# Altium schematic symbol library SGK_DVR_01_Library.SchLib: 230 symbols (part 3 of 3)
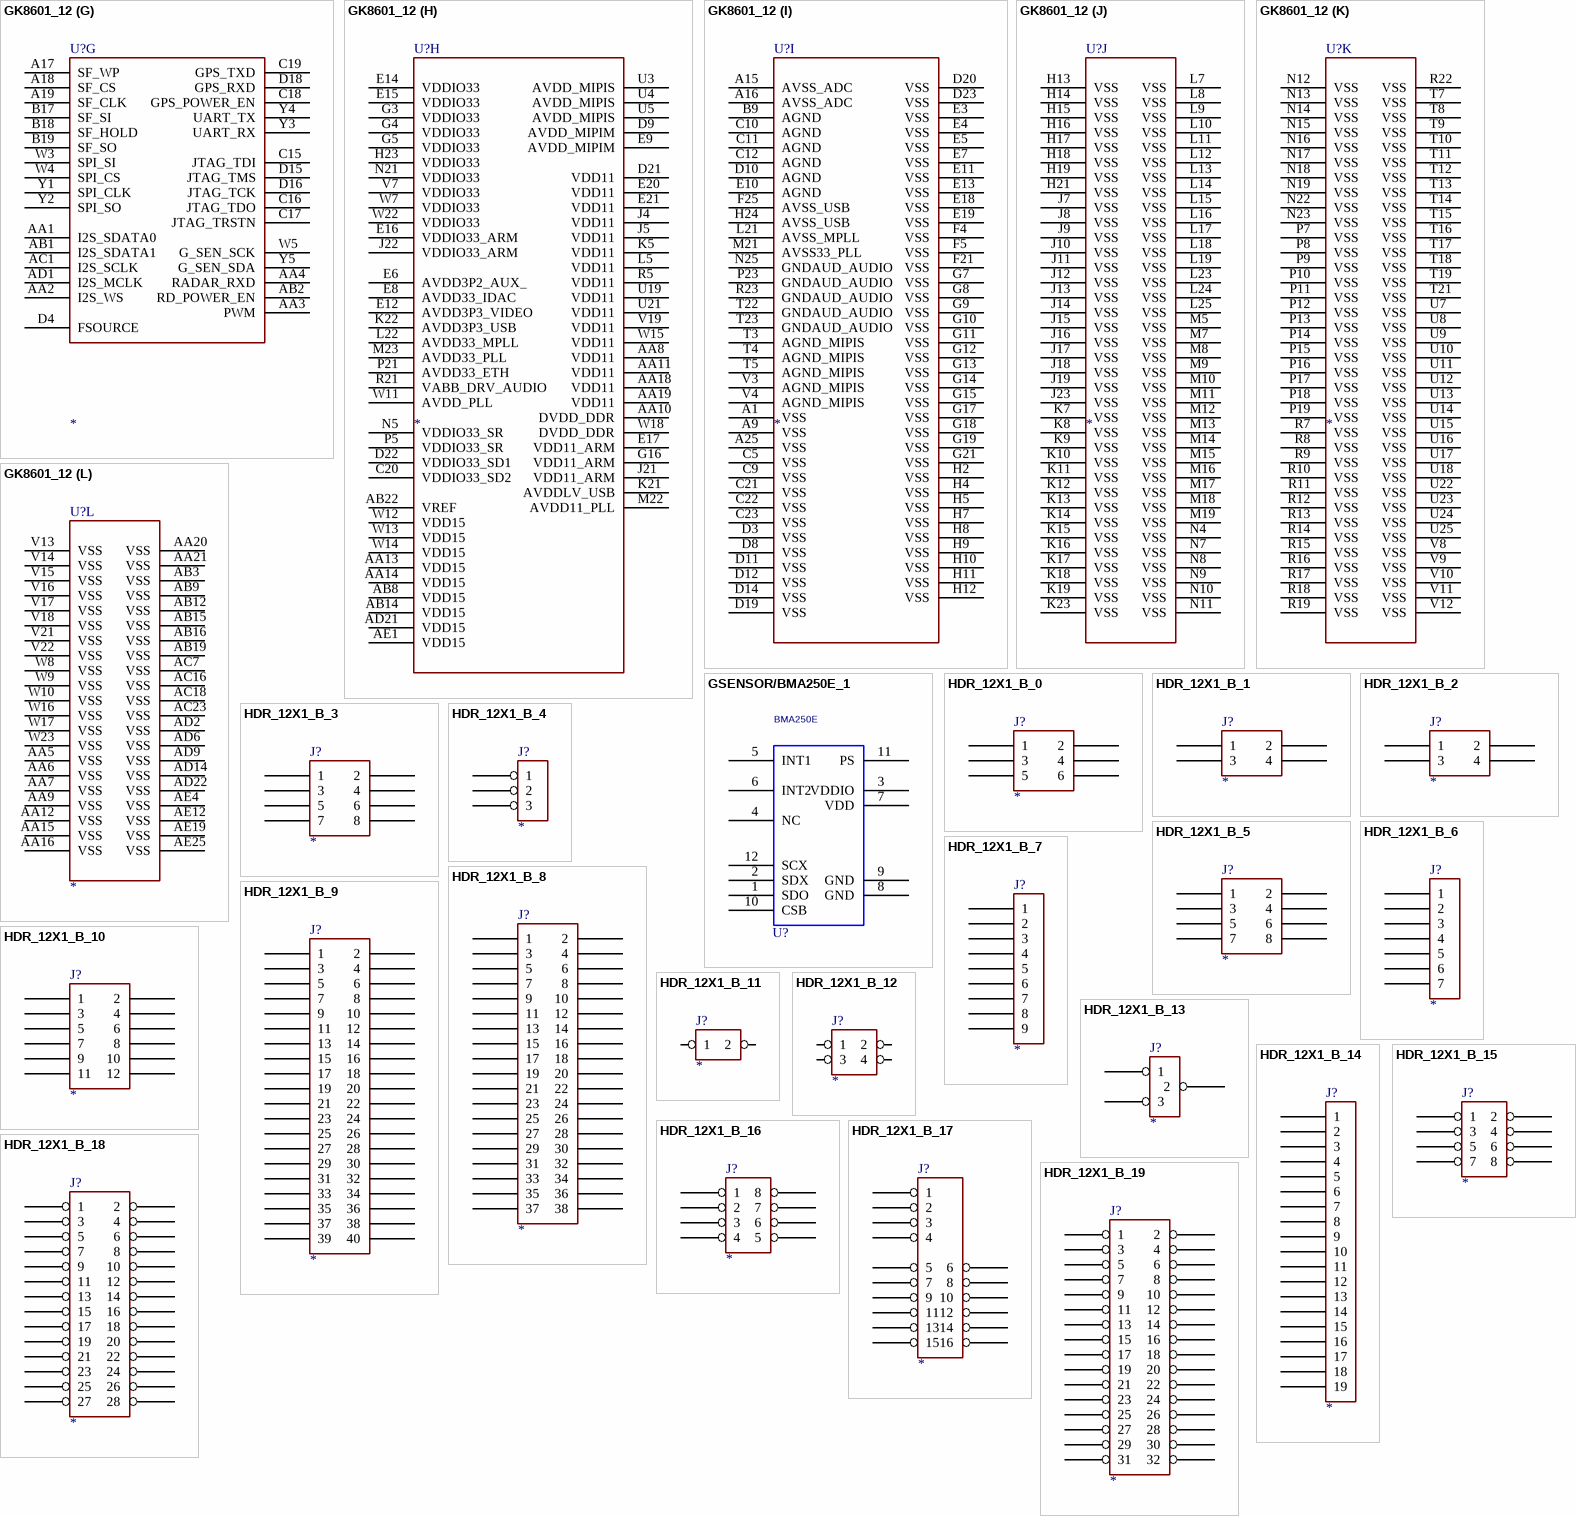
[diagram p32: symbols GK8601_12 to HDR_12X1_B_19]

## GK8601_12
designator U?
footprint FBGA-569-0.65-17X17
part A pins: A2 LCD_DATA_11, A3 LCD_DATA_13, A4 LCD_DATA_15, A5 LCD_DATA_22, A6 LCD_DATA_20, A7 LCD_DATA_18, A8 LCD_DATA_16, A10 MIPI_DSI_N3, A11 MIPI_DSI_P2, A12 MIPI_DSI_CLKP, A13 MIPI_DSI_P1, A14 MIPI_DSI_P0, B1 LCD_DATA_8, B2 LCD_DATA_10, B3 LCD_DATA_12, B4 LCD_DATA_14, B5 LCD_DATA_23, B6 LCD_DATA_21, B7 LCD_DATA_19, B8 LCD_DATA_17, B10 MIPI_DSI_P3, B11 MIPI_DSI_N2, B12 MIPI_DSI_CLKN, B13 MIPI_DSI_N1, B14 MIPI_DSI_N0, C1 LCD_DATA_6, C2 LCD_DATA_7, C3 LCD_DATA_9, C6 LCD_X1, C7 LCD_X2, C13 MIPI_DSI_REXT, D1 LCD_DATA_4, D2 LCD_DATA_5, D6 LCD_Y1, D7 LCD_Y2, E1 LCD_DATA_2, E2 LCD_DATA_3, F1 LCD_DATA_0, F2 LCD_DATA_1, F3 LCD_CLOCK, G1 LCD_HSYNC, G2 LCD_VSYNC, H1 LCD_DEN, H3 LCD_RESET, J3 LCD_BL_EN, K2 LCD_CS, K3 LCD_SCL, K4 LCD_SDA
part B pins: J1 SENSOR_CLK_SO, J2 SENSOR_SPCLK, K1 SENSOR_SDATA_11, L1 SENSOR_SDATA_9, L2 SENSOR_SDATA_10, L3 SENSOR_RESET, L4 SENSOR_POWEREN, M1 SENSOR_SDATA_7, M2 SENSOR_SDATA_8, M3 SENSOR_SCL, M4 SENSOR_SDA, N1 SENSOR_SDATA_5, N2 SENSOR_SDATA_6, N3 SENSOR_SDATA_4, P1 SENSOR_SDATA_3, P2 SENSOR_SDATA_2, P3 SENSOR_SDATA_1, P4 SENSOR_SDATA_0, R1 SENSOR0_MIPI_DM3, R2 SENSOR0_MIPI_DP3, R3 SENSOR_SHSYNC, R4 SENSOR_SVSYNC, T1 SENSOR0_MIPI_DM2, T2 SENSOR0_MIPI_DP2, U1 SENSOR0_MIPI_CLKP, U2 SENSOR0_MIPI_CLKM, V1 SENSOR0_MIPI_DM1, V2 SENSOR0_MIPI_DP1, V5 REXT_MIPIS, W1 SENSOR0_MIPI_DP0, W2 SENSOR0_MIPI_DM0
part C pins: AA17 CKE, AB4 DQ31, AB5 DQ25, AB6 DQS3#, AB7 DQS3, AB10 A13, AB11 ODT, AB13 BA2, AB17 DQ6, AB18 DQ0, AB20 DQ4, AB21 DM0, AB23 DQ5, AC2 DQ27, AC3 DQ29, AC4 DM3, AC5 DQ24, AC6 DQ28, AC8 DQ30, AC9 DQ26, AC10 A3, AC11 A7, AC12 RAS#, AC13 A0, AC14 A10, AC15 A8, AC17 DQ2, AC19 DQS0, AC20 DQS0#, AC21 DQ1, AC22 DQ3, AC24 DQ7, AC25 RST#, AD3 DQ22, AD4 DQ16, AD5 DQS2, AD7 DQ17, AD8 DQ19, AD10 A5, AD11 A15, AD12 WE#, AD13 CLK, AD15 A12, AD16 A4, AD17 A14, AD18 DM1, AD19 DQ11, AD20 DQ15, AD23 DQS1#, AD24 DQ14, AD25 DQ10, AE2 DQ20, AE3 DQ18, AE5 DQS2#, AE6 DQ23, AE7 DM2, AE8 DQ21, AE9 A9, AE10 A2, AE11 BA0, AE13 CLK#, AE14 CAS#, AE15 BA1, AE16 A1, AE17 A11, AE18 A6, AE20 DQ13, AE21 DQ9, AE22 DQ8, AE23 DQS1, AE24 DQ12
part D pins: AA22 C_CONTORL, AA23 PMU_INT2, AA24 POWER_EN0, AA25 PMU_T_MODE, AB24 V_CONTORL, AB25 PMU_RSTN, V23 VDDIO33_AON, V24 PMU_XOUT, V25 PMU_XIN, W19 VDDIO11_AON, W21 AVDD, W24 PMU_RTC_O, W25 PMU_RTC_I, Y21 VDDIO15_AON, Y22 PMU_INT1, Y23 PMU_INT3, Y24 PMU_INT0, Y25 IR_DATA
part E pins: B15 CVBS1, B16 CVBS0, C4 SAR_KEY2, C8 IDAC_OUT, C14 CVBS2, D5 SAR_KEY1, D13 PADA_VCOM, D17 USB_OTG_ID, G24 USB_DP, G25 USB_DM, H25 XTAL_IN_MPLL, J24 TN, J25 TP, K24 RP, K25 RN, M24 MICINN, M25 MICINP, N24 MICBIAS, P22 AUDREF, P24 MICINN1, P25 MICINP1, R24 VOPR_LINE0, R25 VOMR_LINE0, T24 VOPL_LINE0, T25 VOML_LINE0
part F pins: A20 SD2_D7, A21 SD2_D1, A22 SD2_D4, A23 SD2_D5, A24 SD2_CLK, B20 SD2_D2, B21 SD2_D0, B22 SD2_D3, B23 SD2_D6, B24 SD2_CMD, B25 SD2_CD, C24 SD1_D2, C25 SD1_D3, D24 SD1_CMD, D25 SD1_CLK, E22 SD0_D2, E23 SD0_D3, E24 SD1_D0, E25 SD1_D1, F22 SD0_CMD, F23 SD0_CLK, F24 SD1_CD, G22 SD0_D1, G23 SD0_D0, H22 SD0_CD
part G pins: A17 SF_WP, A18 SF_CS, A19 SF_CLK, AA1 I2S_SDATA0, AA2 I2S_WS, AA3 PWM, AA4 RADAR_RXD, AB1 I2S_SDATA1, AB2 RD_POWER_EN, AC1 I2S_SCLK, AD1 I2S_MCLK, B17 SF_SI, B18 SF_HOLD, B19 SF_SO, C15 JTAG_TDI, C16 JTAG_TDO, C17 JTAG_TRSTN, C18 GPS_POWER_EN, C19 GPS_TXD, D4 FSOURCE, D15 JTAG_TMS, D16 JTAG_TCK, D18 GPS_RXD, W3 SPI_SI, W4 SPI_CS, W5 G_SEN_SCK, Y1 SPI_CLK, Y2 SPI_SO, Y3 UART_RX, Y4 UART_TX, Y5 G_SEN_SDA
part H pins: AA8 VDD11, AA10 DVDD_DDR, AA11 VDD11, AA13 VDD15, AA14 VDD15, AA18 VDD11, AA19 VDD11, AB8 VDD15, AB14 VDD15, AB22 VREF, AD21 VDD15, AE1 VDD15, C20 VDDIO33_SD2, D9 AVDD_MIPIM, D21 VDD11, D22 VDDIO33_SD1, E6 AVDD3P2_AUX_, E8 AVDD33_IDAC, E9 AVDD_MIPIM, E12 AVDD3P3_VIDEO, E14 VDDIO33, E15 VDDIO33, E16 VDDIO33_ARM, E17 VDD11_ARM, E20 VDD11, E21 VDD11, G3 VDDIO33, G4 VDDIO33, G5 VDDIO33, G16 VDD11_ARM, H23 VDDIO33, J4 VDD11, J5 VDD11, J21 VDD11_ARM, J22 VDDIO33_ARM, K5 VDD11, K21 AVDDLV_USB, K22 AVDD3P3_USB, L5 VDD11, L22 AVDD33_MPLL, M22 AVDD11_PLL, M23 AVDD33_PLL, N5 VDDIO33_SR, N21 VDDIO33, P5 VDDIO33_SR, P21 AVDD33_ETH, R5 VDD11, R21 VABB_DRV_AUDIO, U3 AVDD_MIPIS, U4 AVDD_MIPIS, U5 AVDD_MIPIS, U19 VDD11, U21 VDD11, V7 VDDIO33, V19 VDD11, W7 VDDIO33, W11 AVDD_PLL, W12 VDD15, W13 VDD15, W14 VDD15, W15 VDD11, W18 DVDD_DDR, W22 VDDIO33
part I pins: A1 VSS, A9 VSS, A15 AVSS_ADC, A16 AVSS_ADC, A25 VSS, B9 AGND, C5 VSS, C9 VSS, C10 AGND, C11 AGND, C12 AGND, C21 VSS, C22 VSS, C23 VSS, D3 VSS, D8 VSS, D10 AGND, D11 VSS, D12 VSS, D14 VSS, D19 VSS, D20 VSS, D23 VSS, E3 VSS, E4 VSS, E5 VSS, E7 VSS, E10 AGND, E11 VSS, E13 VSS, E18 VSS, E19 VSS, F4 VSS, F5 VSS, F21 VSS, F25 AVSS_USB, G7 VSS, G8 VSS, G9 VSS, G10 VSS, G11 VSS, G12 VSS, G13 VSS, G14 VSS, G15 VSS, G17 VSS, G18 VSS, G19 VSS, G21 VSS, H2 VSS, H4 VSS, H5 VSS, H7 VSS, H8 VSS, H9 VSS, H10 VSS, H11 VSS, H12 VSS, H24 AVSS_USB, L21 AVSS_MPLL, M21 AVSS33_PLL, N25 GNDAUD_AUDIO, P23 GNDAUD_AUDIO, R23 GNDAUD_AUDIO, T3 AGND_MIPIS, T4 AGND_MIPIS, T5 AGND_MIPIS, T22 GNDAUD_AUDIO, T23 GNDAUD_AUDIO, V3 AGND_MIPIS, V4 AGND_MIPIS
part J pins: H13 VSS, H14 VSS, H15 VSS, H16 VSS, H17 VSS, H18 VSS, H19 VSS, H21 VSS, J7 VSS, J8 VSS, J9 VSS, J10 VSS, J11 VSS, J12 VSS, J13 VSS, J14 VSS, J15 VSS, J16 VSS, J17 VSS, J18 VSS, J19 VSS, J23 VSS, K7 VSS, K8 VSS, K9 VSS, K10 VSS, K11 VSS, K12 VSS, K13 VSS, K14 VSS, K15 VSS, K16 VSS, K17 VSS, K18 VSS, K19 VSS, K23 VSS, L7 VSS, L8 VSS, L9 VSS, L10 VSS, L11 VSS, L12 VSS, L13 VSS, L14 VSS, L15 VSS, L16 VSS, L17 VSS, L18 VSS, L19 VSS, L23 VSS, L24 VSS, L25 VSS, M5 VSS, M7 VSS, M8 VSS, M9 VSS, M10 VSS, M11 VSS, M12 VSS, M13 VSS, M14 VSS, M15 VSS, M16 VSS, M17 VSS, M18 VSS, M19 VSS, N4 VSS, N7 VSS, N8 VSS, N9 VSS, N10 VSS, N11 VSS
part K pins: N12 VSS, N13 VSS, N14 VSS, N15 VSS, N16 VSS, N17 VSS, N18 VSS, N19 VSS, N22 VSS, N23 VSS, P7 VSS, P8 VSS, P9 VSS, P10 VSS, P11 VSS, P12 VSS, P13 VSS, P14 VSS, P15 VSS, P16 VSS, P17 VSS, P18 VSS, P19 VSS, R7 VSS, R8 VSS, R9 VSS, R10 VSS, R11 VSS, R12 VSS, R13 VSS, R14 VSS, R15 VSS, R16 VSS, R17 VSS, R18 VSS, R19 VSS, R22 VSS, T7 VSS, T8 VSS, T9 VSS, T10 VSS, T11 VSS, T12 VSS, T13 VSS, T14 VSS, T15 VSS, T16 VSS, T17 VSS, T18 VSS, T19 VSS, T21 VSS, U7 VSS, U8 VSS, U9 VSS, U10 VSS, U11 VSS, U12 VSS, U13 VSS, U14 VSS, U15 VSS, U16 VSS, U17 VSS, U18 VSS, U22 VSS, U23 VSS, U24 VSS, U25 VSS, V8 VSS, V9 VSS, V10 VSS, V11 VSS, V12 VSS
part L pins: AA5 VSS, AA6 VSS, AA7 VSS, AA9 VSS, AA12 VSS, AA15 VSS, AA16 VSS, AA20 VSS, AA21 VSS, AB3 VSS, AB9 VSS, AB12 VSS, AB15 VSS, AB16 VSS, AB19 VSS, AC7 VSS, AC16 VSS, AC18 VSS, AC23 VSS, AD2 VSS, AD6 VSS, AD9 VSS, AD14 VSS, AD22 VSS, AE4 VSS, AE12 VSS, AE19 VSS, AE25 VSS, V13 VSS, V14 VSS, V15 VSS, V16 VSS, V17 VSS, V18 VSS, V21 VSS, V22 VSS, W8 VSS, W9 VSS, W10 VSS, W16 VSS, W17 VSS, W23 VSS

## GSENSOR/BMA250E_1
designator U?, comment BMA250E
footprint LGA12/1.8X1.8
pins: 1 SDO, 2 SDX, 3 VDDIO, 4 NC, 5 INT1, 6 INT2, 7 VDD, 8 GND, 9 GND, 10 CSB, 11 PS, 12 SCX

## HDR_12X1_B_0
designator J?
pins: 1, 2, 3, 4, 5, 6

## HDR_12X1_B_1
designator J?
pins: 1, 2, 3, 4

## HDR_12X1_B_2
designator J?
pins: 1, 2, 3, 4

## HDR_12X1_B_3
designator J?
pins: 1, 2, 3, 4, 5, 6, 7, 8

## HDR_12X1_B_4
designator J?
pins: 1, 2, 3

## HDR_12X1_B_5
designator J?
pins: 1, 2, 3, 4, 5, 6, 7, 8

## HDR_12X1_B_6
designator J?
pins: 1, 2, 3, 4, 5, 6, 7

## HDR_12X1_B_7
designator J?
pins: 1, 2, 3, 4, 5, 6, 7, 8, 9

## HDR_12X1_B_8
designator J?
pins: 1, 2, 3, 4, 5, 6, 7, 8, 9, 10, 11, 12, 13, 14, 15, 16, 17, 18, 19, 20, 21, 22, 23, 24, 25, 26, 27, 28, 29, 30, 31, 32, 33, 34, 35, 36, 37, 38

## HDR_12X1_B_9
designator J?
pins: 1, 2, 3, 4, 5, 6, 7, 8, 9, 10, 11, 12, 13, 14, 15, 16, 17, 18, 19, 20, 21, 22, 23, 24, 25, 26, 27, 28, 29, 30, 31, 32, 33, 34, 35, 36, 37, 38, 39, 40

## HDR_12X1_B_10
designator J?
pins: 1, 2, 3, 4, 5, 6, 7, 8, 9, 10, 11, 12

## HDR_12X1_B_11
designator J?
pins: 1, 2

## HDR_12X1_B_12
designator J?
pins: 1, 2, 3, 4

## HDR_12X1_B_13
designator J?
pins: 1, 2, 3

## HDR_12X1_B_14
designator J?
pins: 1, 2, 3, 4, 5, 6, 7, 8, 9, 10, 11, 12, 13, 14, 15, 16, 17, 18, 19

## HDR_12X1_B_15
designator J?
pins: 1, 2, 3, 4, 5, 6, 7, 8

## HDR_12X1_B_16
designator J?
pins: 1, 2, 3, 4, 5, 6, 7, 8

## HDR_12X1_B_17
designator J?
pins: 1, 2, 3, 4, 5, 6, 7, 8, 9, 10, 11, 12, 13, 14, 15, 16

## HDR_12X1_B_18
designator J?
pins: 1, 2, 3, 4, 5, 6, 7, 8, 9, 10, 11, 12, 13, 14, 15, 16, 17, 18, 19, 20, 21, 22, 23, 24, 25, 26, 27, 28

## HDR_12X1_B_19
designator J?
pins: 1, 2, 3, 4, 5, 6, 7, 8, 9, 10, 11, 12, 13, 14, 15, 16, 17, 18, 19, 20, 21, 22, 23, 24, 25, 26, 27, 28, 29, 30, 31, 32

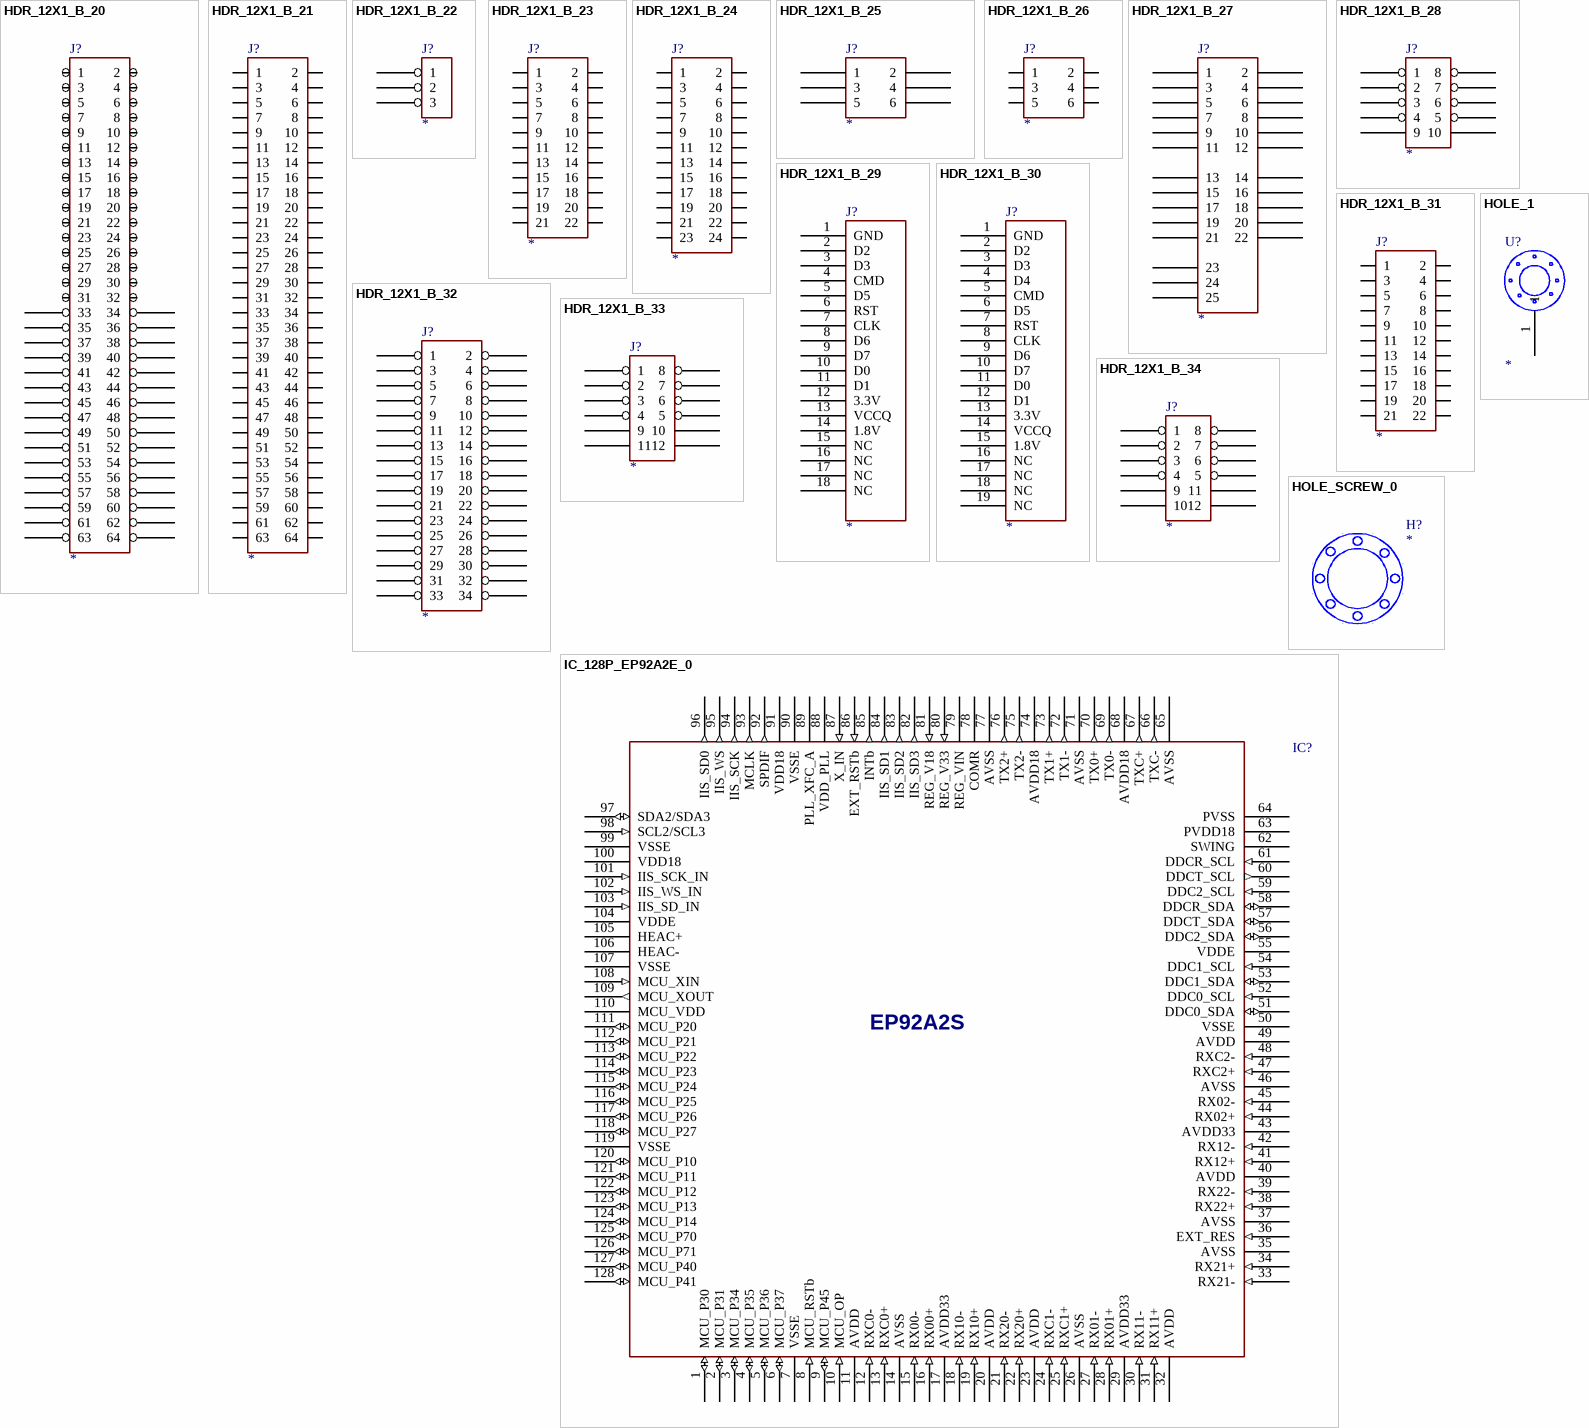
[diagram p20: symbols HDR_12X1_B_20 to IC_128P_EP92A2E_0]

## HDR_12X1_B_20
designator J?
pins: 1, 2, 3, 4, 5, 6, 7, 8, 9, 10, 11, 12, 13, 14, 15, 16, 17, 18, 19, 20, 21, 22, 23, 24, 25, 26, 27, 28, 29, 30, 31, 32, 33, 34, 35, 36, 37, 38, 39, 40, 41, 42, 43, 44, 45, 46, 47, 48, 49, 50, 51, 52, 53, 54, 55, 56, 57, 58, 59, 60, 61, 62, 63, 64

## HDR_12X1_B_21
designator J?
pins: 1, 2, 3, 4, 5, 6, 7, 8, 9, 10, 11, 12, 13, 14, 15, 16, 17, 18, 19, 20, 21, 22, 23, 24, 25, 26, 27, 28, 29, 30, 31, 32, 33, 34, 35, 36, 37, 38, 39, 40, 41, 42, 43, 44, 45, 46, 47, 48, 49, 50, 51, 52, 53, 54, 55, 56, 57, 58, 59, 60, 61, 62, 63, 64

## HDR_12X1_B_22
designator J?
pins: 1, 2, 3

## HDR_12X1_B_23
designator J?
pins: 1, 2, 3, 4, 5, 6, 7, 8, 9, 10, 11, 12, 13, 14, 15, 16, 17, 18, 19, 20, 21, 22

## HDR_12X1_B_24
designator J?
pins: 1, 2, 3, 4, 5, 6, 7, 8, 9, 10, 11, 12, 13, 14, 15, 16, 17, 18, 19, 20, 21, 22, 23, 24

## HDR_12X1_B_25
designator J?
pins: 1, 2, 3, 4, 5, 6

## HDR_12X1_B_26
designator J?
pins: 1, 2, 3, 4, 5, 6

## HDR_12X1_B_27
designator J?
pins: 1, 2, 3, 4, 5, 6, 7, 8, 9, 10, 11, 12, 13, 14, 15, 16, 17, 18, 19, 20, 21, 22, 23, 24, 25

## HDR_12X1_B_28
designator J?
pins: 1, 2, 3, 4, 5, 6, 7, 8, 9, 10

## HDR_12X1_B_29
designator J?
pins: 1 GND, 2 D2, 3 D3, 4 CMD, 5 D5, 6 RST, 7 CLK, 8 D6, 9 D7, 10 D0, 11 D1, 12 3.3V, 13 VCCQ, 14 1.8V, 15 NC, 16 NC, 17 NC, 18 NC

## HDR_12X1_B_30
designator J?
pins: 1 GND, 2 D2, 3 D3, 4 D4, 5 CMD, 6 D5, 7 RST, 8 CLK, 9 D6, 10 D7, 11 D0, 12 D1, 13 3.3V, 14 VCCQ, 15 1.8V, 16 NC, 17 NC, 18 NC, 19 NC

## HDR_12X1_B_31
designator J?
pins: 1, 2, 3, 4, 5, 6, 7, 8, 9, 10, 11, 12, 13, 14, 15, 16, 17, 18, 19, 20, 21, 22

## HDR_12X1_B_32
designator J?
pins: 1, 2, 3, 4, 5, 6, 7, 8, 9, 10, 11, 12, 13, 14, 15, 16, 17, 18, 19, 20, 21, 22, 23, 24, 25, 26, 27, 28, 29, 30, 31, 32, 33, 34

## HDR_12X1_B_33
designator J?
pins: 1, 2, 3, 4, 5, 6, 7, 8, 9, 10, 11, 12

## HDR_12X1_B_34
designator J?
pins: 1, 2, 3, 4, 5, 6, 7, 8, 9, 10, 11, 12

## HOLE_1
designator U?
pins: 1

## HOLE_SCREW_0
designator H?
CLASS: IC; DEVICE: hole32
footprint hole32
pins: 1, 2, 3, 4, 5, 6, 7, 8, 9

## IC_128P_EP92A2E_0
designator IC?, comment EP92A2S
footprint LQFP128-D4M
pins: 1 MCU_P30 (io), 2 MCU_P31 (io), 3 MCU_P34 (io), 4 MCU_P35 (io), 5 MCU_P36 (io), 6 MCU_P37 (io), 7 VSSE (power), 8 MCU_RSTb (in), 9 MCU_P45 (io), 10 MCU_OP (in), 11 AVDD (power), 12 RXC0- (in), 13 RXC0+ (in), 14 AVSS (power), 15 RX00- (in), 16 RX00+ (in), 17 AVDD33 (power), 18 RX10- (in), 19 RX10+ (in), 20 AVDD (power), 21 RX20- (in), 22 RX20+ (in), 23 AVDD (power), 24 RXC1- (in), 25 RXC1+ (in), 26 AVSS (power), 27 RX01- (in), 28 RX01+ (in), 29 AVDD33 (power), 30 RX11- (in), 31 RX11+ (in), 32 AVDD (power), 33 RX21- (in), 34 RX21+ (in), 35 AVSS (power), 36 EXT_RES (in), 37 AVSS (power), 38 RX22+ (in), 39 RX22- (in), 40 AVDD (power), 41 RX12+ (in), 42 RX12- (in), 43 AVDD33 (power), 44 RX02+ (in), 45 RX02- (in), 46 AVSS (power), 47 RXC2+ (in), 48 RXC2- (in), 49 AVDD (power), 50 VSSE (power), 51 DDC0_SDA (io), 52 DDC0_SCL (in), 53 DDC1_SDA (io), 54 DDC1_SCL (in), 55 VDDE (power), 56 DDC2_SDA (io), 57 DDCT_SDA (io), 58 DDCR_SDA (io), 59 DDC2_SCL (in), 60 DDCT_SCL (out), 61 DDCR_SCL (in), 62 SWING, 63 PVDD18 (power), 64 PVSS (power), 65 AVSS (power), 66 TXC- (out), 67 TXC+ (out), 68 AVDD18 (power), 69 TX0- (out), 70 TX0+ (out), 71 AVSS (power), 72 TX1- (out), 73 TX1+ (out), 74 AVDD18 (power), 75 TX2- (out), 76 TX2+ (out), 77 AVSS (power), 78 COMR, 79 REG_VIN (power), 80 REG_V33 (in), 81 REG_V18 (in), 82 IIS_SD3 (out), 83 IIS_SD2 (out), 84 IIS_SD1 (out), 85 INTb (out), 86 EXT_RSTb (in), 87 X_IN (in), 88 VDD_PLL (power), 89 PLL_XFC_A, 90 VSSE (power), 91 VDD18 (power), 92 SPDIF (out), 93 MCLK (out), 94 IIS_SCK (out), 95 IIS_WS (out), 96 IIS_SD0 (out), 97 SDA2/SDA3 (io), 98 SCL2/SCL3 (in), 99 VSSE (power), 100 VDD18 (power), 101 IIS_SCK_IN (in), 102 IIS_WS_IN (in), 103 IIS_SD_IN (in), 104 VDDE (power), 105 HEAC+, 106 HEAC-, 107 VSSE (power), 108 MCU_XIN (in), 109 MCU_XOUT (out), 110 MCU_VDD (power), 111 MCU_P20 (io), 112 MCU_P21 (io), 113 MCU_P22 (io), 114 MCU_P23 (io), 115 MCU_P24 (io), 116 MCU_P25 (io), 117 MCU_P26 (io), 118 MCU_P27 (io), 119 VSSE (power), 120 MCU_P10 (io), 121 MCU_P11 (io), 122 MCU_P12 (io), 123 MCU_P13 (io), 124 MCU_P14 (io), 125 MCU_P70 (io), 126 MCU_P71 (io), 127 MCU_P40 (io), 128 MCU_P41 (io)

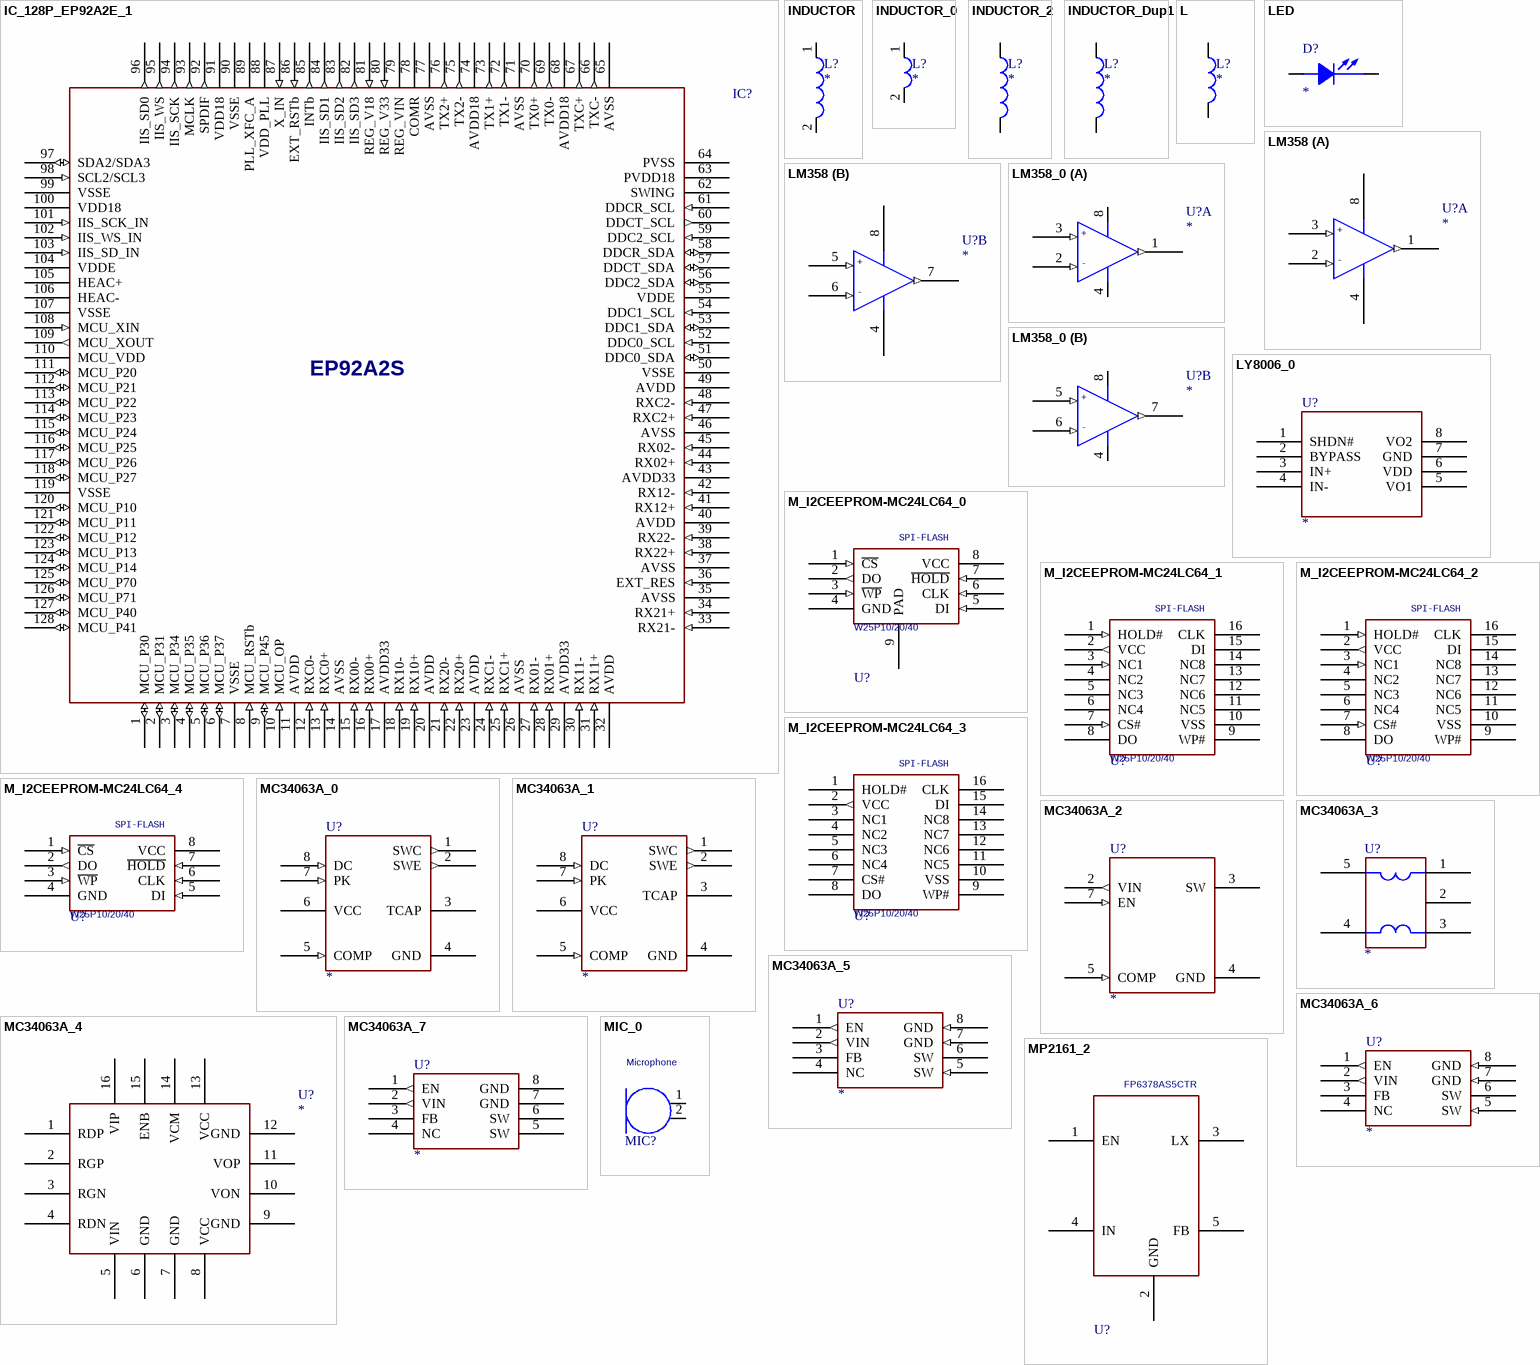
[diagram p21: symbols IC_128P_EP92A2E_1 to MP2161_2]

## IC_128P_EP92A2E_1
designator IC?, comment EP92A2S
footprint LQFP128-D4M
pins: 1 MCU_P30 (io), 2 MCU_P31 (io), 3 MCU_P34 (io), 4 MCU_P35 (io), 5 MCU_P36 (io), 6 MCU_P37 (io), 7 VSSE (power), 8 MCU_RSTb (in), 9 MCU_P45 (io), 10 MCU_OP (in), 11 AVDD (power), 12 RXC0- (in), 13 RXC0+ (in), 14 AVSS (power), 15 RX00- (in), 16 RX00+ (in), 17 AVDD33 (power), 18 RX10- (in), 19 RX10+ (in), 20 AVDD (power), 21 RX20- (in), 22 RX20+ (in), 23 AVDD (power), 24 RXC1- (in), 25 RXC1+ (in), 26 AVSS (power), 27 RX01- (in), 28 RX01+ (in), 29 AVDD33 (power), 30 RX11- (in), 31 RX11+ (in), 32 AVDD (power), 33 RX21- (in), 34 RX21+ (in), 35 AVSS (power), 36 EXT_RES (in), 37 AVSS (power), 38 RX22+ (in), 39 RX22- (in), 40 AVDD (power), 41 RX12+ (in), 42 RX12- (in), 43 AVDD33 (power), 44 RX02+ (in), 45 RX02- (in), 46 AVSS (power), 47 RXC2+ (in), 48 RXC2- (in), 49 AVDD (power), 50 VSSE (power), 51 DDC0_SDA (io), 52 DDC0_SCL (in), 53 DDC1_SDA (io), 54 DDC1_SCL (in), 55 VDDE (power), 56 DDC2_SDA (io), 57 DDCT_SDA (io), 58 DDCR_SDA (io), 59 DDC2_SCL (in), 60 DDCT_SCL (out), 61 DDCR_SCL (in), 62 SWING, 63 PVDD18 (power), 64 PVSS (power), 65 AVSS (power), 66 TXC- (out), 67 TXC+ (out), 68 AVDD18 (power), 69 TX0- (out), 70 TX0+ (out), 71 AVSS (power), 72 TX1- (out), 73 TX1+ (out), 74 AVDD18 (power), 75 TX2- (out), 76 TX2+ (out), 77 AVSS (power), 78 COMR, 79 REG_VIN (power), 80 REG_V33 (in), 81 REG_V18 (in), 82 IIS_SD3 (out), 83 IIS_SD2 (out), 84 IIS_SD1 (out), 85 INTb (out), 86 EXT_RSTb (in), 87 X_IN (in), 88 VDD_PLL (power), 89 PLL_XFC_A, 90 VSSE (power), 91 VDD18 (power), 92 SPDIF (out), 93 MCLK (out), 94 IIS_SCK (out), 95 IIS_WS (out), 96 IIS_SD0 (out), 97 SDA2/SDA3 (io), 98 SCL2/SCL3 (in), 99 VSSE (power), 100 VDD18 (power), 101 IIS_SCK_IN (in), 102 IIS_WS_IN (in), 103 IIS_SD_IN (in), 104 VDDE (power), 105 HEAC+, 106 HEAC-, 107 VSSE (power), 108 MCU_XIN (in), 109 MCU_XOUT (out), 110 MCU_VDD (power), 111 MCU_P20 (io), 112 MCU_P21 (io), 113 MCU_P22 (io), 114 MCU_P23 (io), 115 MCU_P24 (io), 116 MCU_P25 (io), 117 MCU_P26 (io), 118 MCU_P27 (io), 119 VSSE (power), 120 MCU_P10 (io), 121 MCU_P11 (io), 122 MCU_P12 (io), 123 MCU_P13 (io), 124 MCU_P14 (io), 125 MCU_P70 (io), 126 MCU_P71 (io), 127 MCU_P40 (io), 128 MCU_P41 (io)

## INDUCTOR
designator L?
pins: 1, 2

## INDUCTOR_0
designator L?
OriginalSymbolOrigin: (10,0)
pins: 1, 2

## INDUCTOR_2
designator L?
pins: 1, 2

## INDUCTOR_Dup1
designator L?
pins: 1, 2

## L
designator L?
pins: 1, 2

## LED
designator D?
pins: 1 ANODE, 2 CATHODE

## LM358
designator U?
part A pins: 1 OUT (out), 2 -IN (in), 3 +IN (in), 4 GND (power), 8 VCC (power)
part B pins: 4 GND (power), 5 +IN (in), 6 -IN (in), 7 OUT (out), 8 VCC (power)
part A text: +; -
part B text: +; -

## LM358_0
designator U?
part A pins: 1 OUT (out), 2 -IN (in), 3 +IN (in), 4 GND (power), 8 VCC (power)
part B pins: 4 GND (power), 5 +IN (in), 6 -IN (in), 7 OUT (out), 8 VCC (power)
part A text: +; -
part B text: +; -

## LY8006_0
designator U?
pins: 1 SHDN#, 2 BYPASS, 3 IN+, 4 IN-, 5 VO1, 6 VDD, 7 GND, 8 VO2

## M_I2CEEPROM-MC24LC64_0
designator U?, comment W25P10/20/40
PART_SPEC: EEPROM,SERIAL,I2C,64KB,8KX8,2.5V; CLASS: IC; DEVICE: 24LC64-SN; LEVEL: STD; P/D_NUM: 100-000031
footprint SO8
pins: 1 ~{CS} (in), 2 DO (out), 3 ~{WP} (in), 4 GND (power), 5 DI (in), 6 CLK (in), 7 ~{HOLD} (in), 8 VCC (power), 9 PAD
text: SPI-FLASH

## M_I2CEEPROM-MC24LC64_1
designator U?, comment W25P10/20/40
PART_SPEC: EEPROM,SERIAL,I2C,64KB,8KX8,2.5V; CLASS: IC; DEVICE: 24LC64-SN; LEVEL: STD; P/D_NUM: 100-000031
footprint SO8
pins: 1 HOLD# (in), 2 VCC (out), 3 NC1 (in), 4 NC2, 5 NC3, 6 NC4, 7 CS# (in), 8 DO (power), 9 WP#, 10 VSS, 11 NC5, 12 NC6, 13 NC7, 14 NC8, 15 DI, 16 CLK
text: SPI-FLASH

## M_I2CEEPROM-MC24LC64_2
designator U?, comment W25P10/20/40
PART_SPEC: EEPROM,SERIAL,I2C,64KB,8KX8,2.5V; CLASS: IC; DEVICE: 24LC64-SN; LEVEL: STD; P/D_NUM: 100-000031
footprint SO8
pins: 1 HOLD# (in), 2 VCC (out), 3 NC1 (in), 4 NC2, 5 NC3, 6 NC4, 7 CS# (in), 8 DO, 9 WP#, 10 VSS, 11 NC5, 12 NC6, 13 NC7, 14 NC8, 15 DI, 16 CLK
text: SPI-FLASH

## M_I2CEEPROM-MC24LC64_3
designator U?, comment W25P10/20/40
PART_SPEC: EEPROM,SERIAL,I2C,64KB,8KX8,2.5V; CLASS: IC; DEVICE: 24LC64-SN; LEVEL: STD; P/D_NUM: 100-000031
footprint SO8
pins: 1 HOLD#, 2 VCC (out), 3 NC1, 4 NC2, 5 NC3, 6 NC4, 7 CS#, 8 DO, 9 WP#, 10 VSS, 11 NC5, 12 NC6, 13 NC7, 14 NC8, 15 DI, 16 CLK
text: SPI-FLASH

## M_I2CEEPROM-MC24LC64_4
designator U?, comment W25P10/20/40
PART_SPEC: EEPROM,SERIAL,I2C,64KB,8KX8,2.5V; CLASS: IC; DEVICE: 24LC64-SN; LEVEL: STD; P/D_NUM: 100-000031
footprint SO8
pins: 1 ~{CS} (in), 2 DO (out), 3 ~{WP} (in), 4 GND (power), 5 DI (in), 6 CLK (in), 7 ~{HOLD} (in), 8 VCC (power)
text: SPI-FLASH

## MC34063A_0
designator U?
pins: 1 SWC (out), 2 SWE (out), 3 TCAP, 4 GND (power), 5 COMP (in), 6 VCC (power), 7 PK (in), 8 DC (in)

## MC34063A_1
designator U?
pins: 1 SWC (out), 2 SWE (out), 3 TCAP, 4 GND (power), 5 COMP (in), 6 VCC (power), 7 PK (in), 8 DC (in)

## MC34063A_2
designator U?
pins: 2 VIN (out), 3 SW, 4 GND (power), 5 COMP (in), 7 EN (in)

## MC34063A_3
designator U?
pins: 1, 2, 3, 4, 5

## MC34063A_4
designator U?
pins: 1 RDP, 2 RGP, 3 RGN, 4 RDN, 5 VIN, 6 GND, 7 GND, 8 VCC, 9 GND, 10 VON, 11 VOP, 12 GND, 13 VCC, 14 VCM, 15 ENB, 16 VIP

## MC34063A_5
designator U?
pins: 1 EN (out), 2 VIN (out), 3 FB, 4 NC (power), 5 SW (in), 6 SW (power), 7 GND (in), 8 GND (in)

## MC34063A_6
designator U?
pins: 1 EN (out), 2 VIN (out), 3 FB, 4 NC, 5 SW (in), 6 SW, 7 GND (in), 8 GND (in)

## MC34063A_7
designator U?
pins: 1 EN (out), 2 VIN (out), 3 FB, 4 NC, 5 SW, 6 SW, 7 GND, 8 GND

## MIC_0
designator MIC?, comment Microphone
pins: 1, 2

## MP2161_2
designator U?, comment FP6378AS5CTR
pins: 1 EN, 2 GND, 3 LX, 4 IN, 5 FB

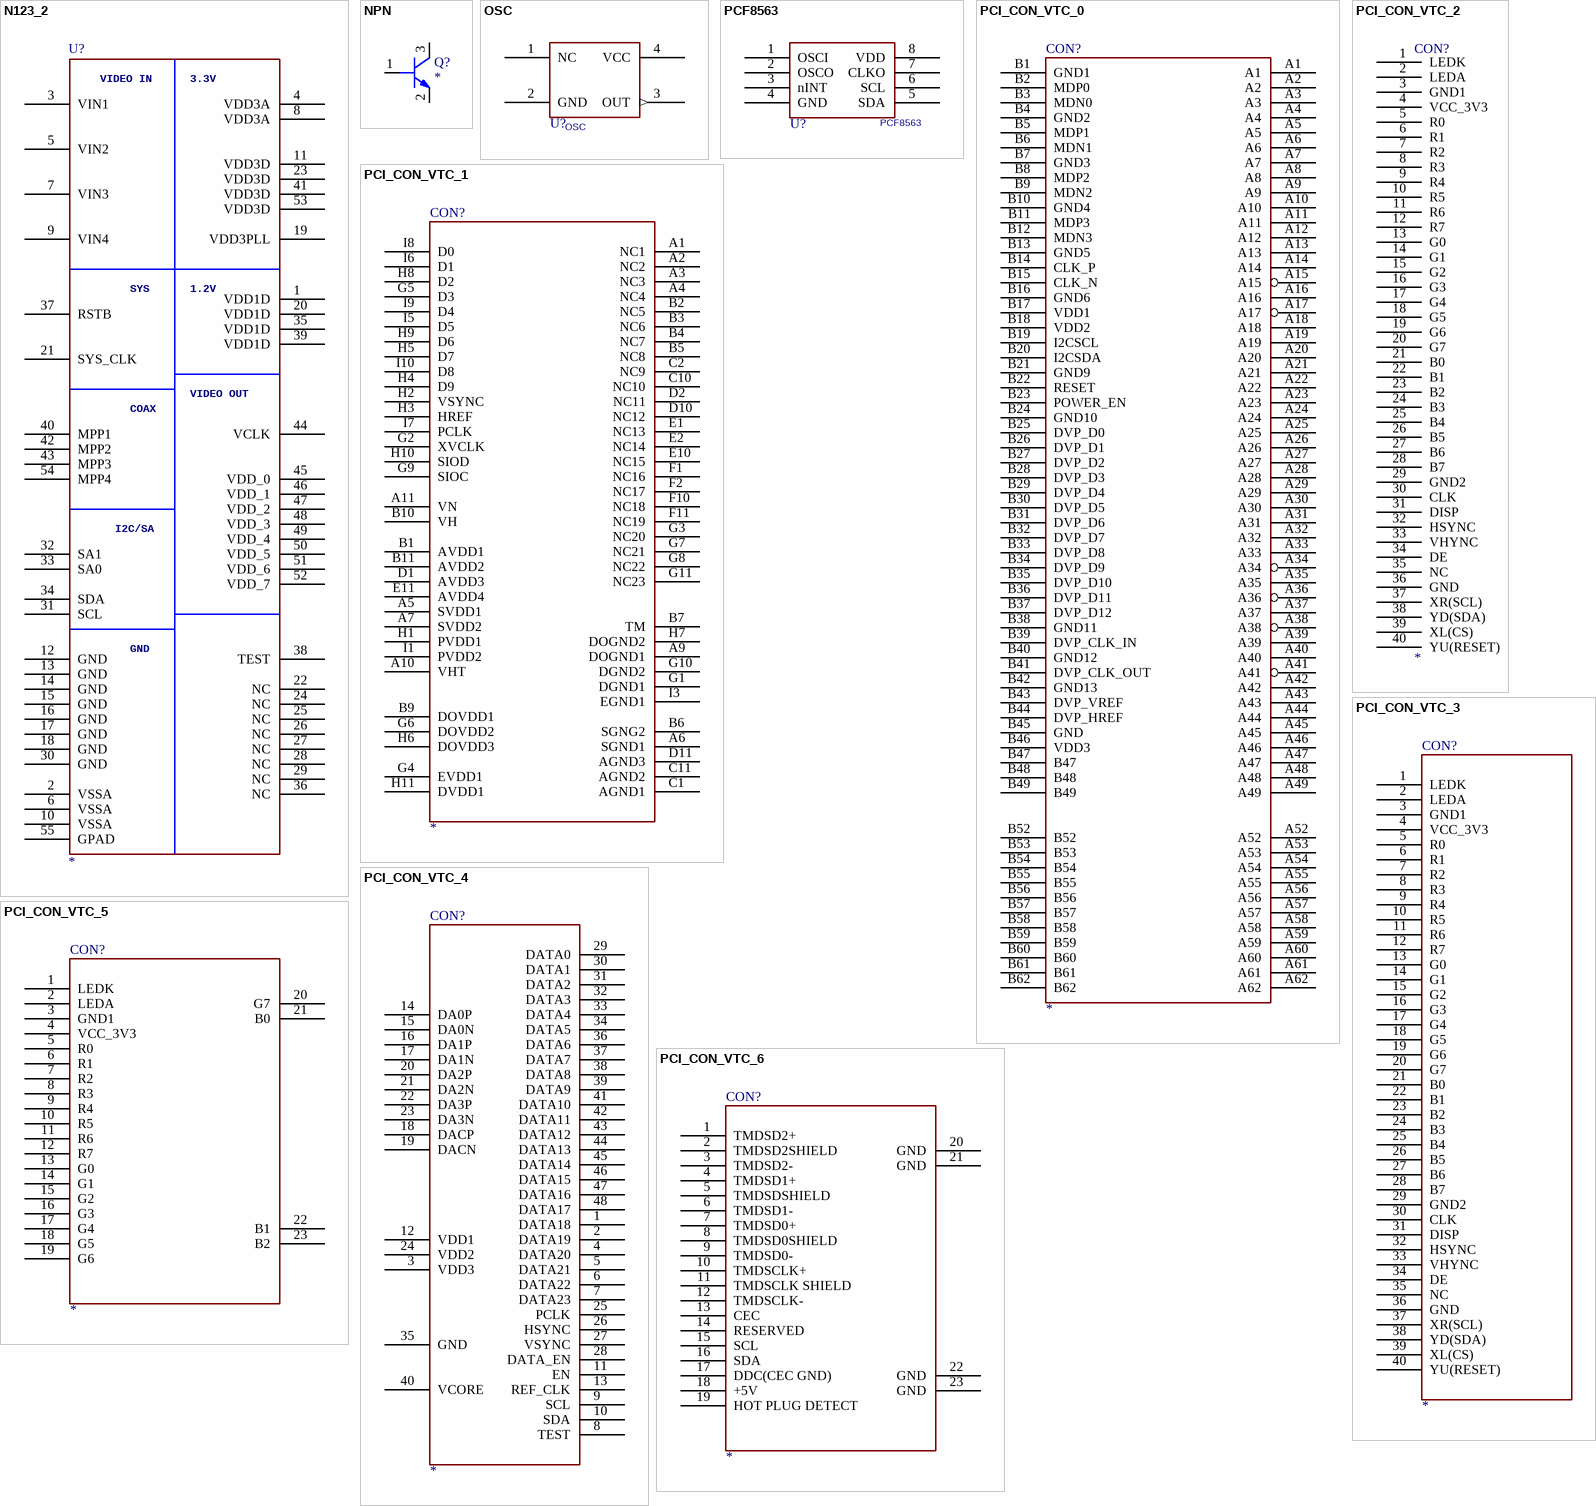
[diagram p22: symbols N123_2 to PCI_CON_VTC_6]

## N123_2
designator U?
pins: 1 VDD1D, 2 VSSA, 3 VIN1, 4 VDD3A, 5 VIN2, 6 VSSA, 7 VIN3, 8 VDD3A, 9 VIN4, 10 VSSA, 11 VDD3D, 12 GND, 13 GND, 14 GND, 15 GND, 16 GND, 17 GND, 18 GND, 19 VDD3PLL, 20 VDD1D, 21 SYS_CLK, 22 NC, 23 VDD3D, 24 NC, 25 NC, 26 NC, 27 NC, 28 NC, 29 NC, 30 GND, 31 SCL, 32 SA1, 33 SA0, 34 SDA, 35 VDD1D, 36 NC, 37 RSTB, 38 TEST, 39 VDD1D, 40 MPP1, 41 VDD3D, 42 MPP2, 43 MPP3, 44 VCLK, 45 VDD_0, 46 VDD_1, 47 VDD_2, 48 VDD_3, 49 VDD_4, 50 VDD_5, 51 VDD_6, 52 VDD_7, 53 VDD3D, 54 MPP4, 55 GPAD
text: VIDEO IN; 3.3V; SYS; 1.2V; VIDEO OUT; COAX; I2C/SA

## NPN
designator Q?
pins: 1 B, 2 E, 3 C

## OSC
designator U?
pins: 1 NC, 2 GND (power), 3 OUT (out), 4 VCC (power)

## PCF8563
designator U?
footprint SO-8
pins: 1 OSCI, 2 OSCO, 3 nINT, 4 GND, 5 SDA, 6 SCL, 7 CLKO, 8 VDD

## PCI_CON_VTC_0
designator CON?
pins: A1, A2, A3, A4, A5, A6, A7, A8, A9, A10, A11, A12, A13, A14, A15, A16, A17, A18, A19, A20, A21, A22, A23, A24, A25, A26, A27, A28, A29, A30, A31, A32, A33, A34, A35, A36, A37, A38, A39, A40, A41, A42, A43, A44, A45, A46, A47, A48, A49, A52, A53, A54, A55, A56, A57, A58, A59, A60, A61, A62, B1 GND1, B2 MDP0, B3 MDN0, B4 GND2, B5 MDP1, B6 MDN1, B7 GND3, B8 MDP2, B9 MDN2, B10 GND4, B11 MDP3, B12 MDN3, B13 GND5, B14 CLK_P, B15 CLK_N, B16 GND6, B17 VDD1, B18 VDD2, B19 I2CSCL, B20 I2CSDA, B21 GND9, B22 RESET, B23 POWER_EN, B24 GND10, B25 DVP_D0, B26 DVP_D1, B27 DVP_D2, B28 DVP_D3, B29 DVP_D4, B30 DVP_D5, B31 DVP_D6, B32 DVP_D7, B33 DVP_D8, B34 DVP_D9, B35 DVP_D10, B36 DVP_D11, B37 DVP_D12, B38 GND11, B39 DVP_CLK_IN, B40 GND12, B41 DVP_CLK_OUT, B42 GND13, B43 DVP_VREF, B44 DVP_HREF, B45 GND, B46 VDD3, B47, B48, B49, B52, B53, B54, B55, B56, B57, B58, B59, B60, B61, B62

## PCI_CON_VTC_1
designator CON?
pins: A1 NC1, A2 NC2, A3 NC3, A4 NC4, A5 SVDD1, A6 SGND1, A7 SVDD2, A9 DOGND1, A10 VHT, A11 VN, B1 AVDD1, B2 NC5, B3 NC6, B4 NC7, B5 NC8, B6 SGNG2, B7 TM, B9 DOVDD1, B10 VH, B11 AVDD2, C1 AGND1, C2 NC9, C10 NC10, C11 AGND2, D1 AVDD3, D2 NC11, D10 NC12, D11 AGND3, E1 NC13, E2 NC14, E10 NC15, E11 AVDD4, F1 NC16, F2 NC17, F10 NC18, F11 NC19, G1 DGND1, G2 XVCLK, G3 NC20, G4 EVDD1, G5 D3, G6 DOVDD2, G7 NC21, G8 NC22, G9 SIOC, G10 DGND2, G11 NC23, H1 PVDD1, H2 VSYNC, H3 HREF, H4 D9, H5 D7, H6 DOVDD3, H7 DOGND2, H8 D2, H9 D6, H10 SIOD, H11 DVDD1, I1 PVDD2, I3 EGND1, I5 D5, I6 D1, I7 PCLK, I8 D0, I9 D4, I10 D8

## PCI_CON_VTC_2
designator CON?
pins: 1 LEDK, 2 LEDA, 3 GND1, 4 VCC_3V3, 5 R0, 6 R1, 7 R2, 8 R3, 9 R4, 10 R5, 11 R6, 12 R7, 13 G0, 14 G1, 15 G2, 16 G3, 17 G4, 18 G5, 19 G6, 20 G7, 21 B0, 22 B1, 23 B2, 24 B3, 25 B4, 26 B5, 27 B6, 28 B7, 29 GND2, 30 CLK, 31 DISP, 32 HSYNC, 33 VHYNC, 34 DE, 35 NC, 36 GND, 37 XR(SCL), 38 YD(SDA), 39 XL(CS), 40 YU(RESET)

## PCI_CON_VTC_3
designator CON?
pins: 1 LEDK, 2 LEDA, 3 GND1, 4 VCC_3V3, 5 R0, 6 R1, 7 R2, 8 R3, 9 R4, 10 R5, 11 R6, 12 R7, 13 G0, 14 G1, 15 G2, 16 G3, 17 G4, 18 G5, 19 G6, 20 G7, 21 B0, 22 B1, 23 B2, 24 B3, 25 B4, 26 B5, 27 B6, 28 B7, 29 GND2, 30 CLK, 31 DISP, 32 HSYNC, 33 VHYNC, 34 DE, 35 NC, 36 GND, 37 XR(SCL), 38 YD(SDA), 39 XL(CS), 40 YU(RESET)

## PCI_CON_VTC_4
designator CON?
pins: 1 DATA18, 2 DATA19, 3 VDD3, 4 DATA20, 5 DATA21, 6 DATA22, 7 DATA23, 8 TEST, 9 SCL, 10 SDA, 11 EN, 12 VDD1, 13 REF_CLK, 14 DA0P, 15 DA0N, 16 DA1P, 17 DA1N, 18 DACP, 19 DACN, 20 DA2P, 21 DA2N, 22 DA3P, 23 DA3N, 24 VDD2, 25 PCLK, 26 HSYNC, 27 VSYNC, 28 DATA_EN, 29 DATA0, 30 DATA1, 31 DATA2, 32 DATA3, 33 DATA4, 34 DATA5, 35 GND, 36 DATA6, 37 DATA7, 38 DATA8, 39 DATA9, 40 VCORE, 41 DATA10, 42 DATA11, 43 DATA12, 44 DATA13, 45 DATA14, 46 DATA15, 47 DATA16, 48 DATA17

## PCI_CON_VTC_5
designator CON?
pins: 1 LEDK, 2 LEDA, 3 GND1, 4 VCC_3V3, 5 R0, 6 R1, 7 R2, 8 R3, 9 R4, 10 R5, 11 R6, 12 R7, 13 G0, 14 G1, 15 G2, 16 G3, 17 G4, 18 G5, 19 G6, 20 G7, 21 B0, 22 B1, 23 B2

## PCI_CON_VTC_6
designator CON?
pins: 1 TMDSD2+, 2 TMDSD2SHIELD, 3 TMDSD2-, 4 TMDSD1+, 5 TMDSDSHIELD, 6 TMDSD1-, 7 TMDSD0+, 8 TMDSD0SHIELD, 9 TMDSD0-, 10 TMDSCLK+, 11 TMDSCLK SHIELD, 12 TMDSCLK-, 13 CEC, 14 RESERVED, 15 SCL, 16 SDA, 17 DDC(CEC GND), 18 +5V, 19 HOT PLUG DETECT, 20 GND, 21 GND, 22 GND, 23 GND

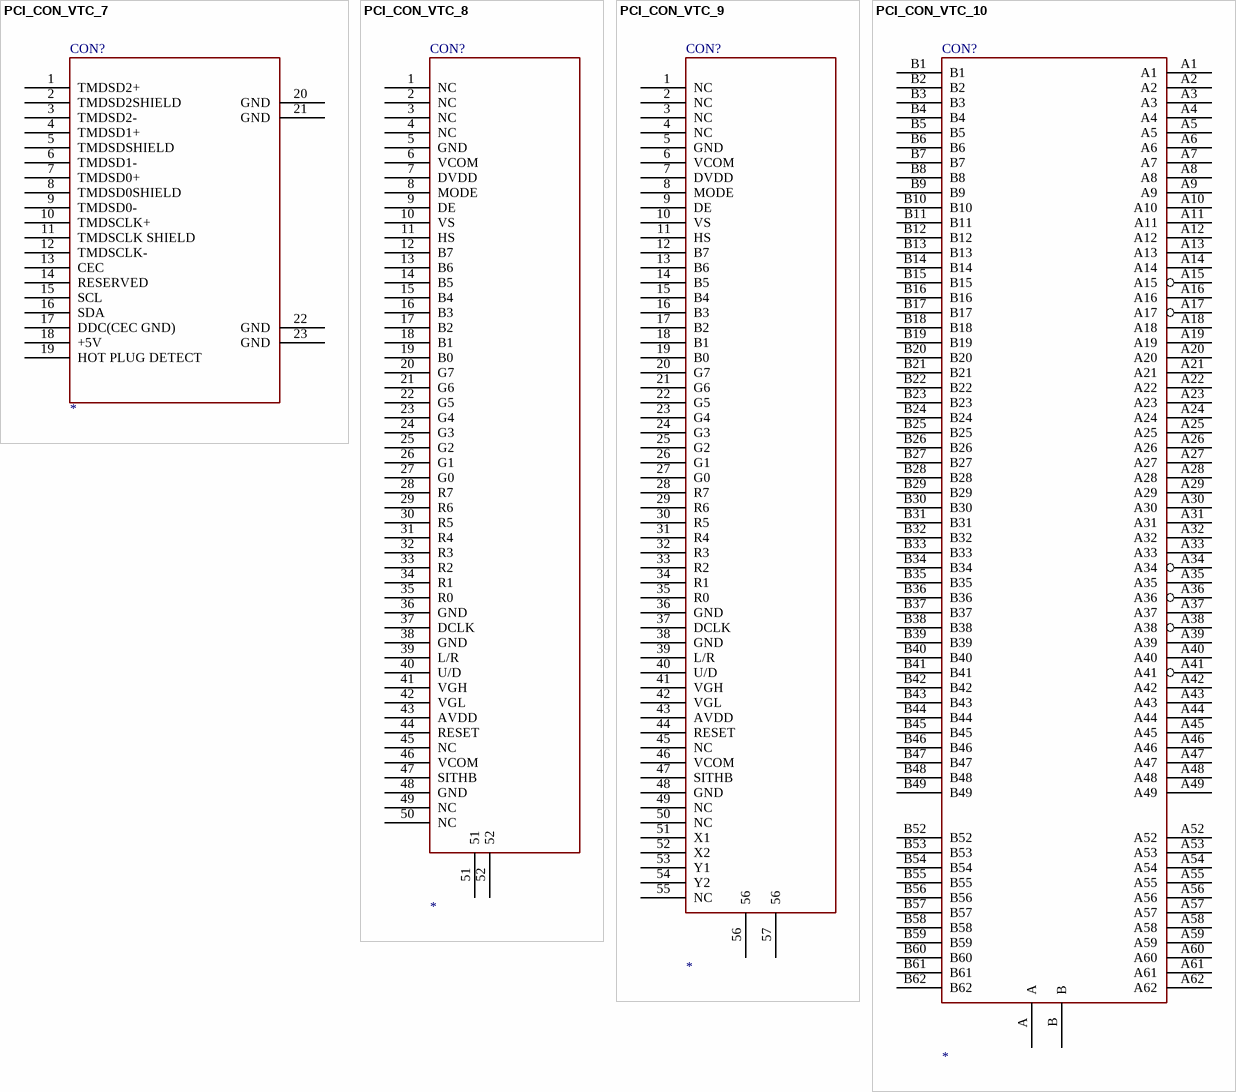
[diagram p23: symbols PCI_CON_VTC_7 to PCI_CON_VTC_10]

## PCI_CON_VTC_7
designator CON?
pins: 1 TMDSD2+, 2 TMDSD2SHIELD, 3 TMDSD2-, 4 TMDSD1+, 5 TMDSDSHIELD, 6 TMDSD1-, 7 TMDSD0+, 8 TMDSD0SHIELD, 9 TMDSD0-, 10 TMDSCLK+, 11 TMDSCLK SHIELD, 12 TMDSCLK-, 13 CEC, 14 RESERVED, 15 SCL, 16 SDA, 17 DDC(CEC GND), 18 +5V, 19 HOT PLUG DETECT, 20 GND, 21 GND, 22 GND, 23 GND

## PCI_CON_VTC_8
designator CON?
pins: 1 NC, 2 NC, 3 NC, 4 NC, 5 GND, 6 VCOM, 7 DVDD, 8 MODE, 9 DE, 10 VS, 11 HS, 12 B7, 13 B6, 14 B5, 15 B4, 16 B3, 17 B2, 18 B1, 19 B0, 20 G7, 21 G6, 22 G5, 23 G4, 24 G3, 25 G2, 26 G1, 27 G0, 28 R7, 29 R6, 30 R5, 31 R4, 32 R3, 33 R2, 34 R1, 35 R0, 36 GND, 37 DCLK, 38 GND, 39 L/R, 40 U/D, 41 VGH, 42 VGL, 43 AVDD, 44 RESET, 45 NC, 46 VCOM, 47 SITHB, 48 GND, 49 NC, 50 NC, 51, 52

## PCI_CON_VTC_9
designator CON?
pins: 1 NC, 2 NC, 3 NC, 4 NC, 5 GND, 6 VCOM, 7 DVDD, 8 MODE, 9 DE, 10 VS, 11 HS, 12 B7, 13 B6, 14 B5, 15 B4, 16 B3, 17 B2, 18 B1, 19 B0, 20 G7, 21 G6, 22 G5, 23 G4, 24 G3, 25 G2, 26 G1, 27 G0, 28 R7, 29 R6, 30 R5, 31 R4, 32 R3, 33 R2, 34 R1, 35 R0, 36 GND, 37 DCLK, 38 GND, 39 L/R, 40 U/D, 41 VGH, 42 VGL, 43 AVDD, 44 RESET, 45 NC, 46 VCOM, 47 SITHB, 48 GND, 49 NC, 50 NC, 51 X1, 52 X2, 53 Y1, 54 Y2, 55 NC, 56, 57 56

## PCI_CON_VTC_10
designator CON?
pins: A, A1, A2, A3, A4, A5, A6, A7, A8, A9, A10, A11, A12, A13, A14, A15, A16, A17, A18, A19, A20, A21, A22, A23, A24, A25, A26, A27, A28, A29, A30, A31, A32, A33, A34, A35, A36, A37, A38, A39, A40, A41, A42, A43, A44, A45, A46, A47, A48, A49, A52, A53, A54, A55, A56, A57, A58, A59, A60, A61, A62, B, B1, B2, B3, B4, B5, B6, B7, B8, B9, B10, B11, B12, B13, B14, B15, B16, B17, B18, B19, B20, B21, B22, B23, B24, B25, B26, B27, B28, B29, B30, B31, B32, B33, B34, B35, B36, B37, B38, B39, B40, B41, B42, B43, B44, B45, B46, B47, B48, B49, B52, B53, B54, B55, B56, B57, B58, B59, B60, B61, B62

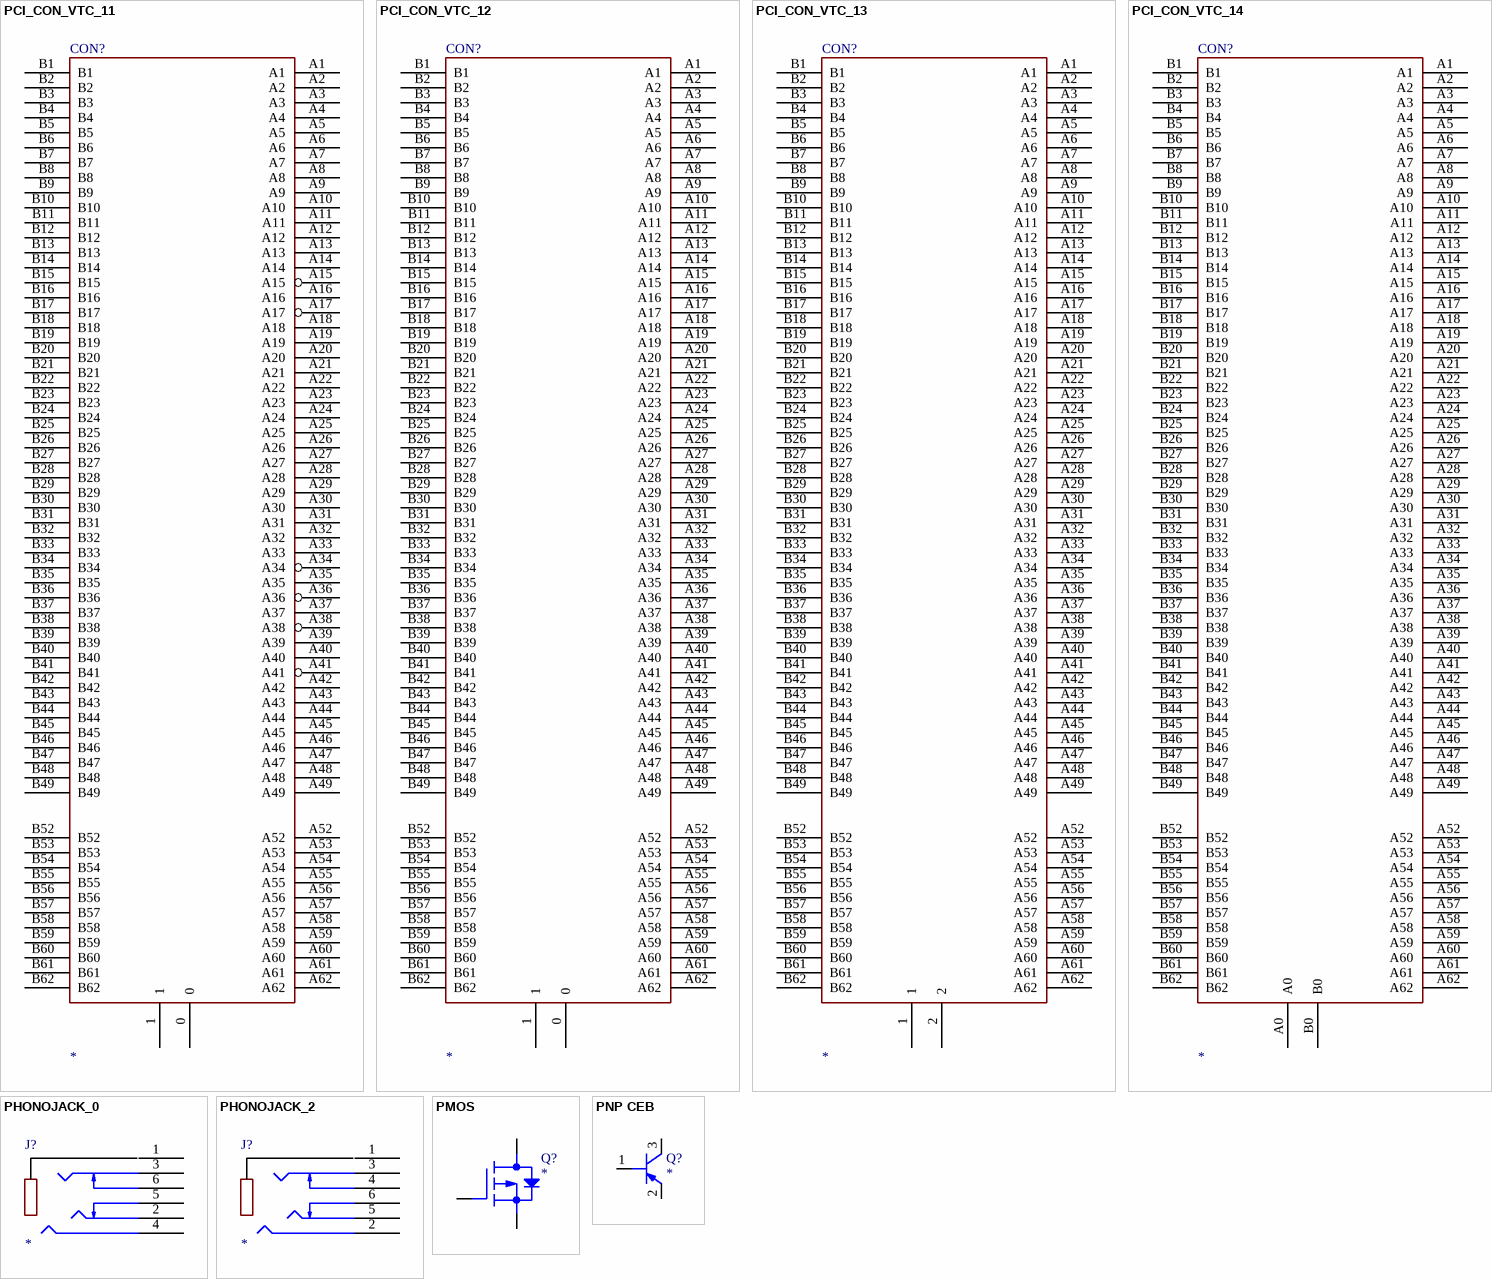
[diagram p24: symbols PCI_CON_VTC_11 to PNP CEB]

## PCI_CON_VTC_11
designator CON?
pins: 0, 1, A1, A2, A3, A4, A5, A6, A7, A8, A9, A10, A11, A12, A13, A14, A15, A16, A17, A18, A19, A20, A21, A22, A23, A24, A25, A26, A27, A28, A29, A30, A31, A32, A33, A34, A35, A36, A37, A38, A39, A40, A41, A42, A43, A44, A45, A46, A47, A48, A49, A52, A53, A54, A55, A56, A57, A58, A59, A60, A61, A62, B1, B2, B3, B4, B5, B6, B7, B8, B9, B10, B11, B12, B13, B14, B15, B16, B17, B18, B19, B20, B21, B22, B23, B24, B25, B26, B27, B28, B29, B30, B31, B32, B33, B34, B35, B36, B37, B38, B39, B40, B41, B42, B43, B44, B45, B46, B47, B48, B49, B52, B53, B54, B55, B56, B57, B58, B59, B60, B61, B62

## PCI_CON_VTC_12
designator CON?
pins: 0, 1, A1, A2, A3, A4, A5, A6, A7, A8, A9, A10, A11, A12, A13, A14, A15, A16, A17, A18, A19, A20, A21, A22, A23, A24, A25, A26, A27, A28, A29, A30, A31, A32, A33, A34, A35, A36, A37, A38, A39, A40, A41, A42, A43, A44, A45, A46, A47, A48, A49, A52, A53, A54, A55, A56, A57, A58, A59, A60, A61, A62, B1, B2, B3, B4, B5, B6, B7, B8, B9, B10, B11, B12, B13, B14, B15, B16, B17, B18, B19, B20, B21, B22, B23, B24, B25, B26, B27, B28, B29, B30, B31, B32, B33, B34, B35, B36, B37, B38, B39, B40, B41, B42, B43, B44, B45, B46, B47, B48, B49, B52, B53, B54, B55, B56, B57, B58, B59, B60, B61, B62

## PCI_CON_VTC_13
designator CON?
pins: 1, 2, A1, A2, A3, A4, A5, A6, A7, A8, A9, A10, A11, A12, A13, A14, A15, A16, A17, A18, A19, A20, A21, A22, A23, A24, A25, A26, A27, A28, A29, A30, A31, A32, A33, A34, A35, A36, A37, A38, A39, A40, A41, A42, A43, A44, A45, A46, A47, A48, A49, A52, A53, A54, A55, A56, A57, A58, A59, A60, A61, A62, B1, B2, B3, B4, B5, B6, B7, B8, B9, B10, B11, B12, B13, B14, B15, B16, B17, B18, B19, B20, B21, B22, B23, B24, B25, B26, B27, B28, B29, B30, B31, B32, B33, B34, B35, B36, B37, B38, B39, B40, B41, B42, B43, B44, B45, B46, B47, B48, B49, B52, B53, B54, B55, B56, B57, B58, B59, B60, B61, B62

## PCI_CON_VTC_14
designator CON?
pins: A0, A1, A2, A3, A4, A5, A6, A7, A8, A9, A10, A11, A12, A13, A14, A15, A16, A17, A18, A19, A20, A21, A22, A23, A24, A25, A26, A27, A28, A29, A30, A31, A32, A33, A34, A35, A36, A37, A38, A39, A40, A41, A42, A43, A44, A45, A46, A47, A48, A49, A52, A53, A54, A55, A56, A57, A58, A59, A60, A61, A62, B0, B1, B2, B3, B4, B5, B6, B7, B8, B9, B10, B11, B12, B13, B14, B15, B16, B17, B18, B19, B20, B21, B22, B23, B24, B25, B26, B27, B28, B29, B30, B31, B32, B33, B34, B35, B36, B37, B38, B39, B40, B41, B42, B43, B44, B45, B46, B47, B48, B49, B52, B53, B54, B55, B56, B57, B58, B59, B60, B61, B62

## PHONOJACK_0
designator J?
footprint TSH-3865D
pins: 1, 2, 3, 4, 5, 6

## PHONOJACK_2
designator J?
footprint TSH-3865D
pins: 1, 2, 3, 4, 5, 6

## PMOS
designator Q?
pins: 1 GATE, 2 SOURCE, 3 DRAIN

## PNP CEB
designator Q?
pins: 1 B, 2 E, 3 C

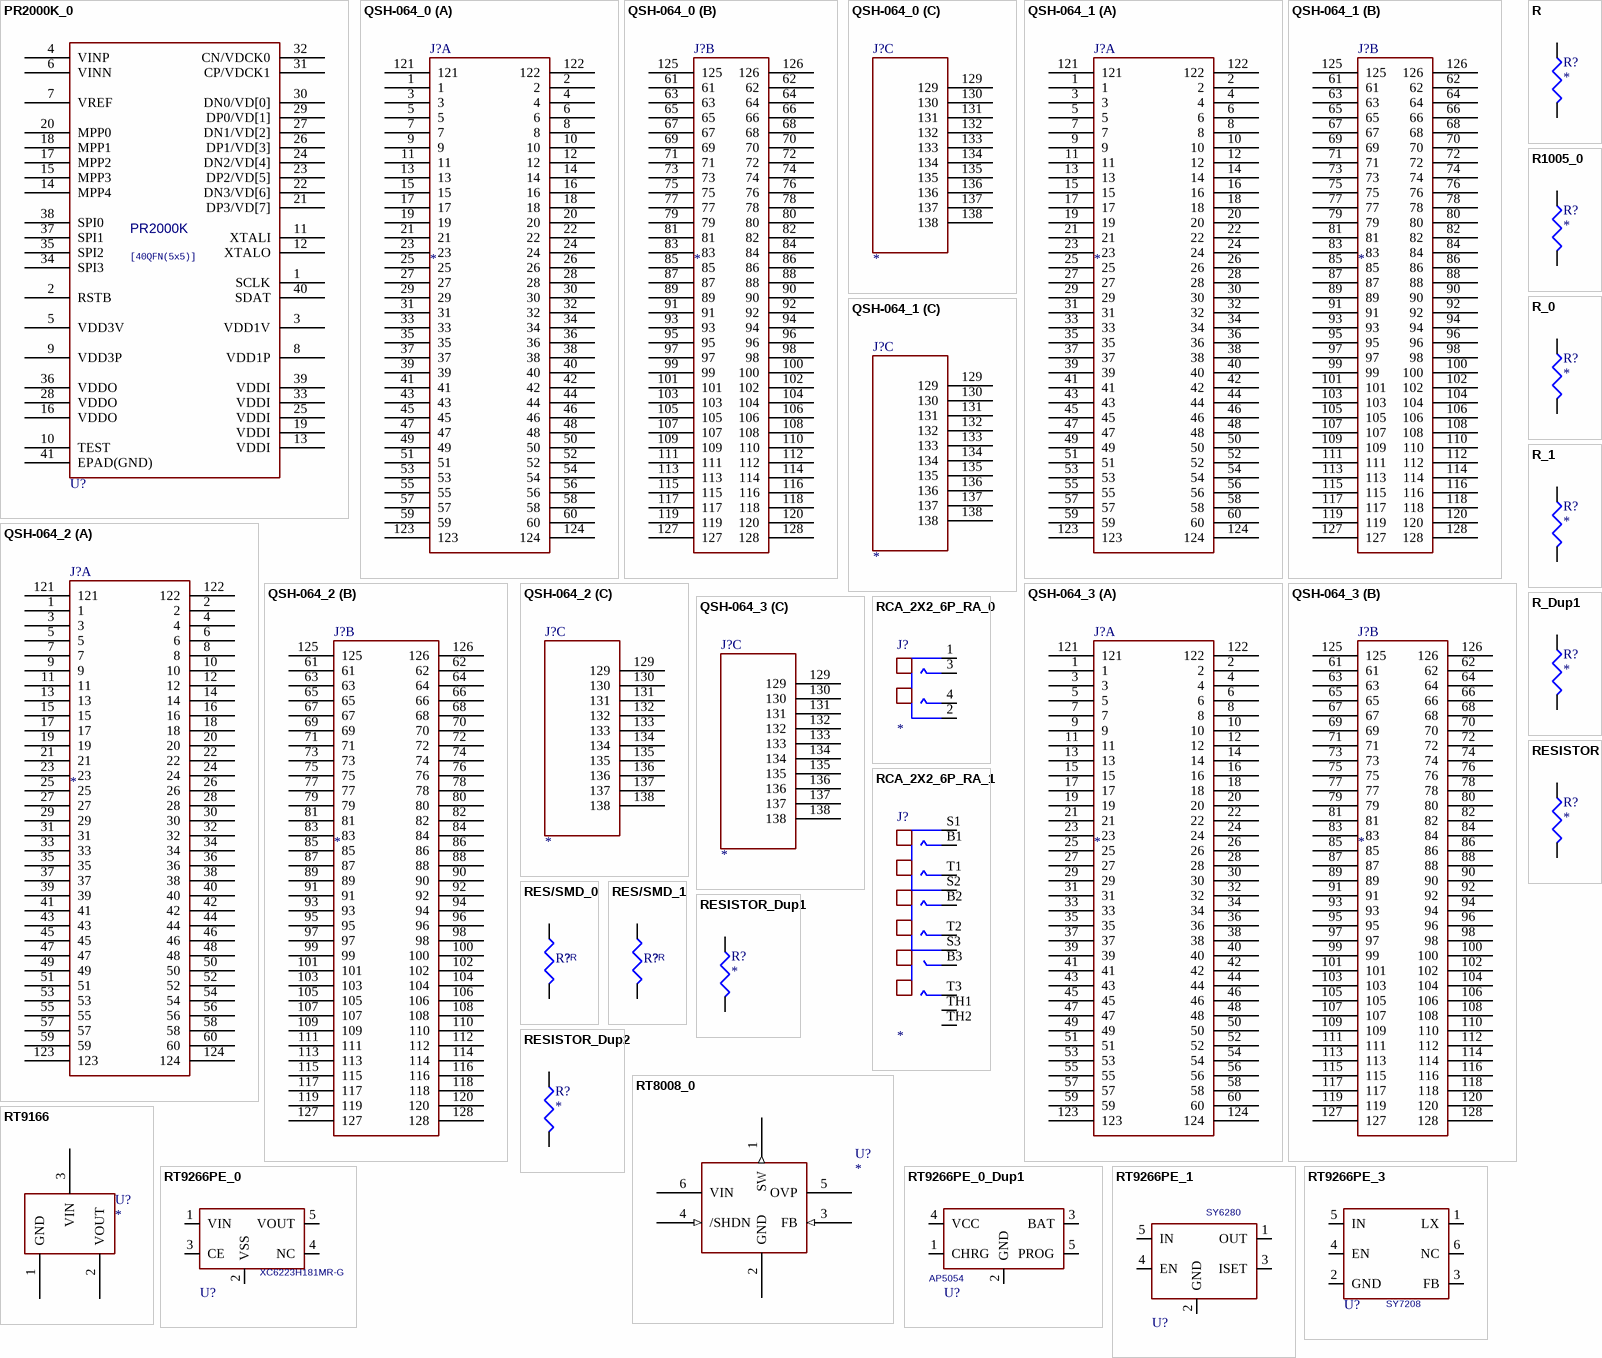
[diagram p25: symbols PR2000K_0 to RT9266PE_3]

## PR2000K_0
designator U?, comment PR2000K
pins: 1 SCLK, 2 RSTB, 3 VDD1V (power), 4 VINP, 5 VDD3V (power), 6 VINN, 7 VREF, 8 VDD1P (power), 9 VDD3P (power), 10 TEST, 11 XTALI, 12 XTALO, 13 VDDI (power), 14 MPP4, 15 MPP3, 16 VDDO (power), 17 MPP2, 18 MPP1, 19 VDDI (power), 20 MPP0, 21 DP3/VD[7], 22 DN3/VD[6], 23 DP2/VD[5], 24 DN2/VD[4], 25 VDDI (power), 26 DP1/VD[3], 27 DN1/VD[2], 28 VDDO (power), 29 DP0/VD[1], 30 DN0/VD[0], 31 CP/VDCK1, 32 CN/VDCK0, 33 VDDI (power), 34 SPI3, 35 SPI2, 36 VDDO (power), 37 SPI1, 38 SPI0, 39 VDDI (power), 40 SDAT, 41 EPAD(GND) (power)
text: [40QFN(5x5)]

## QSH-064_0
designator J?
SPLIT_INST: TRUE; SWAP_INFO: (S1+S2+S3)
footprint ASP-125521-03
part A pins: 1, 2, 3, 4, 5, 6, 7, 8, 9, 10, 11, 12, 13, 14, 15, 16, 17, 18, 19, 20, 21, 22, 23, 24, 25, 26, 27, 28, 29, 30, 31, 32, 33, 34, 35, 36, 37, 38, 39, 40, 41, 42, 43, 44, 45, 46, 47, 48, 49, 50, 51, 52, 53, 54, 55, 56, 57, 58, 59, 60, 121, 122, 123, 124
part B pins: 61, 62, 63, 64, 65, 66, 67, 68, 69, 70, 71, 72, 73, 74, 75, 76, 77, 78, 79, 80, 81, 82, 83, 84, 85, 86, 87, 88, 89, 90, 91, 92, 93, 94, 95, 96, 97, 98, 99, 100, 101, 102, 103, 104, 105, 106, 107, 108, 109, 110, 111, 112, 113, 114, 115, 116, 117, 118, 119, 120, 125, 126, 127, 128
part C pins: 129, 130, 131, 132, 133, 134, 135, 136, 137, 138

## QSH-064_1
designator J?
SPLIT_INST: TRUE; SWAP_INFO: (S1+S2+S3)
footprint ASP-125521-03
part A pins: 1, 2, 3, 4, 5, 6, 7, 8, 9, 10, 11, 12, 13, 14, 15, 16, 17, 18, 19, 20, 21, 22, 23, 24, 25, 26, 27, 28, 29, 30, 31, 32, 33, 34, 35, 36, 37, 38, 39, 40, 41, 42, 43, 44, 45, 46, 47, 48, 49, 50, 51, 52, 53, 54, 55, 56, 57, 58, 59, 60, 121, 122, 123, 124
part B pins: 61, 62, 63, 64, 65, 66, 67, 68, 69, 70, 71, 72, 73, 74, 75, 76, 77, 78, 79, 80, 81, 82, 83, 84, 85, 86, 87, 88, 89, 90, 91, 92, 93, 94, 95, 96, 97, 98, 99, 100, 101, 102, 103, 104, 105, 106, 107, 108, 109, 110, 111, 112, 113, 114, 115, 116, 117, 118, 119, 120, 125, 126, 127, 128
part C pins: 129, 130, 131, 132, 133, 134, 135, 136, 137, 138

## QSH-064_2
designator J?
SPLIT_INST: TRUE; SWAP_INFO: (S1+S2+S3)
footprint ASP-125521-03
part A pins: 1, 2, 3, 4, 5, 6, 7, 8, 9, 10, 11, 12, 13, 14, 15, 16, 17, 18, 19, 20, 21, 22, 23, 24, 25, 26, 27, 28, 29, 30, 31, 32, 33, 34, 35, 36, 37, 38, 39, 40, 41, 42, 43, 44, 45, 46, 47, 48, 49, 50, 51, 52, 53, 54, 55, 56, 57, 58, 59, 60, 121, 122, 123, 124
part B pins: 61, 62, 63, 64, 65, 66, 67, 68, 69, 70, 71, 72, 73, 74, 75, 76, 77, 78, 79, 80, 81, 82, 83, 84, 85, 86, 87, 88, 89, 90, 91, 92, 93, 94, 95, 96, 97, 98, 99, 100, 101, 102, 103, 104, 105, 106, 107, 108, 109, 110, 111, 112, 113, 114, 115, 116, 117, 118, 119, 120, 125, 126, 127, 128
part C pins: 129, 130, 131, 132, 133, 134, 135, 136, 137, 138

## QSH-064_3
designator J?
SPLIT_INST: TRUE; SWAP_INFO: (S1+S2+S3)
footprint ASP-125521-03
part A pins: 1, 2, 3, 4, 5, 6, 7, 8, 9, 10, 11, 12, 13, 14, 15, 16, 17, 18, 19, 20, 21, 22, 23, 24, 25, 26, 27, 28, 29, 30, 31, 32, 33, 34, 35, 36, 37, 38, 39, 40, 41, 42, 43, 44, 45, 46, 47, 48, 49, 50, 51, 52, 53, 54, 55, 56, 57, 58, 59, 60, 121, 122, 123, 124
part B pins: 61, 62, 63, 64, 65, 66, 67, 68, 69, 70, 71, 72, 73, 74, 75, 76, 77, 78, 79, 80, 81, 82, 83, 84, 85, 86, 87, 88, 89, 90, 91, 92, 93, 94, 95, 96, 97, 98, 99, 100, 101, 102, 103, 104, 105, 106, 107, 108, 109, 110, 111, 112, 113, 114, 115, 116, 117, 118, 119, 120, 125, 126, 127, 128
part C pins: 129, 130, 131, 132, 133, 134, 135, 136, 137, 138

## R
designator R?
pins: 1, 2

## R1005_0
designator R?
footprint R1005
pins: 1, 2

## R_0
designator R?
footprint R0805
pins: 1, 2

## R_1
designator R?
footprint R0805
pins: 1, 2

## R_Dup1
designator R?
pins: 1, 2

## RCA_2X2_6P_RA_0
designator J?
pins: 1 L-GND, 2 R-GND, 3 L, 4 R

## RCA_2X2_6P_RA_1
designator J?
pins: B1 1T, B2 3T, B3, S1 SHLD1, S2 SHLD2, S3, T1 2T, T2 4T, T3, TH1 NC1, TH2 NC2

## RES/SMD_0
designator R?, comment ?R
footprint R0603/SMD
pins: 1, 2

## RES/SMD_1
designator R?, comment ?R
footprint R0603/SMD
pins: 1, 2

## RESISTOR
designator R?
pins: 1, 2

## RESISTOR_Dup1
designator R?
pins: 1, 2

## RESISTOR_Dup2
designator R?
pins: 1, 2

## RT8008_0
designator U?
footprint SOT-23-5
pins: 1 SW (out), 2 GND (power), 3 FB (in), 4 /SHDN (in), 5 OVP, 6 VIN

## RT9166
designator U?
footprint SOT-23
pins: 1 GND (power), 2 VOUT (power), 3 VIN (power)

## RT9266PE_0
designator U?, comment XC6223H181MR-G
footprint SOT23-6
pins: 1 VIN, 2 VSS, 3 CE, 4 NC, 5 VOUT

## RT9266PE_0_Dup1
designator U?, comment AP5054
footprint SOT23-6
pins: 1 CHRG, 2 GND, 3 BAT, 4 VCC, 5 PROG

## RT9266PE_1
designator U?, comment SY6280
footprint SOT23-6
pins: 1 OUT, 2 GND, 3 ISET, 4 EN, 5 IN

## RT9266PE_3
designator U?, comment SY7208
footprint SOT23-6
pins: 1 LX, 2 GND, 3 FB, 4 EN, 5 IN, 6 NC

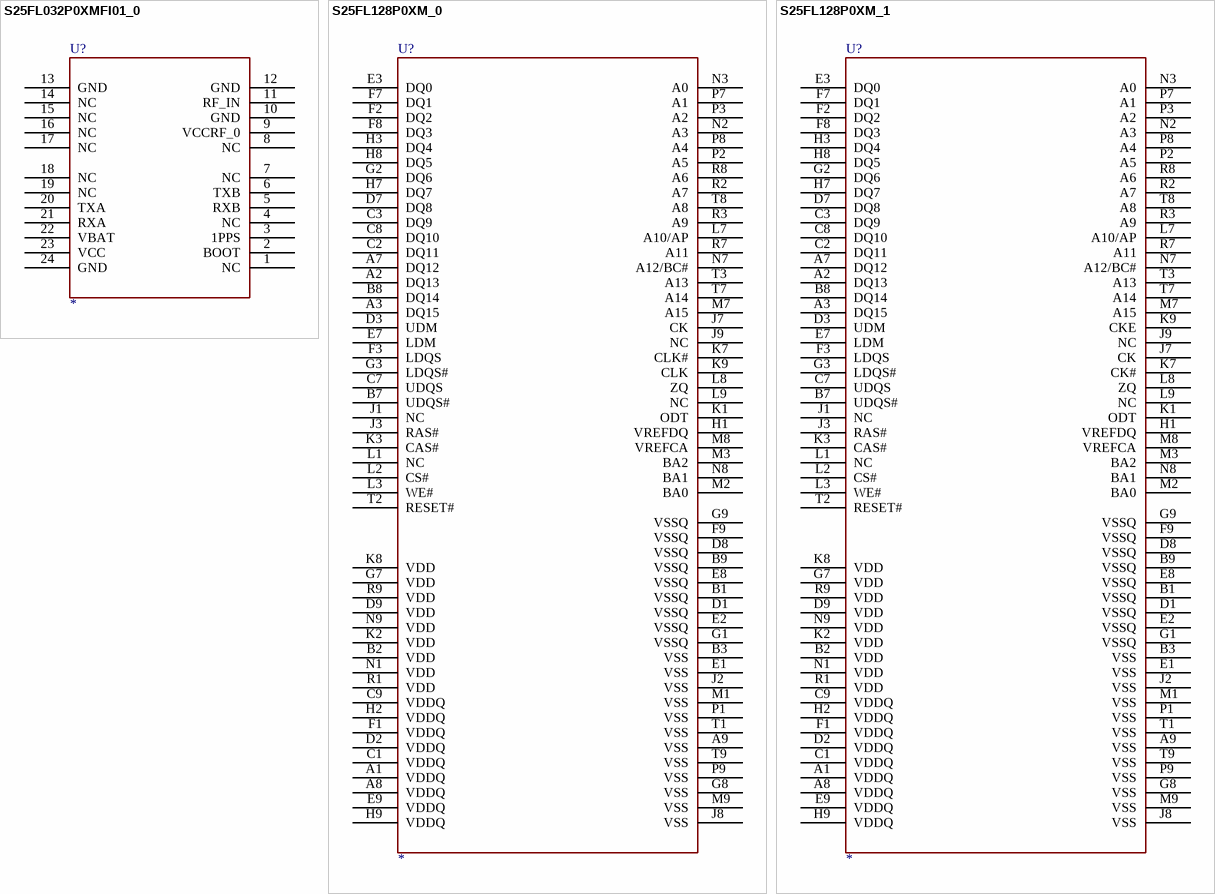
[diagram p26: symbols S25FL032P0XMFI01_0 to S25FL128P0XM_1]

## S25FL032P0XMFI01_0
designator U?
footprint soic8w_1r27_5r3x7r9
pins: 1 NC, 2 BOOT, 3 1PPS, 4 NC, 5 RXB, 6 TXB, 7 NC, 8 NC, 9 VCCRF_0, 10 GND, 11 RF_IN, 12 GND, 13 GND, 14 NC, 15 NC, 16 NC, 17 NC, 18 NC, 19 NC, 20 TXA, 21 RXA, 22 VBAT, 23 VCC, 24 GND

## S25FL128P0XM_0
designator U?
footprint SO16_1R27_10R3X10R3
pins: A1 VDDQ, A2 DQ13, A3 DQ15, A7 DQ12, A8 VDDQ, A9 VSS, B1 VSSQ, B2 VDD, B3 VSS, B7 UDQS#, B8 DQ14, B9 VSSQ, C1 VDDQ, C2 DQ11, C3 DQ9, C7 UDQS, C8 DQ10, C9 VDDQ, D1 VSSQ, D2 VDDQ, D3 UDM, D7 DQ8, D8 VSSQ, D9 VDD, E1 VSS, E2 VSSQ, E3 DQ0, E7 LDM, E8 VSSQ, E9 VDDQ, F1 VDDQ, F2 DQ2, F3 LDQS, F7 DQ1, F8 DQ3, F9 VSSQ, G1 VSSQ, G2 DQ6, G3 LDQS#, G7 VDD, G8 VSS, G9 VSSQ, H1 VREFDQ, H2 VDDQ, H3 DQ4, H7 DQ7, H8 DQ5, H9 VDDQ, J1 NC, J2 VSS, J3 RAS#, J7 CK, J8 VSS, J9 NC, K1 ODT, K2 VDD, K3 CAS#, K7 CLK#, K8 VDD, K9 CLK, L1 NC, L2 CS#, L3 WE#, L7 A10/AP, L8 ZQ, L9 NC, M1 VSS, M2 BA0, M3 BA2, M7 A15, M8 VREFCA, M9 VSS, N1 VDD, N2 A3, N3 A0, N7 A12/BC#, N8 BA1, N9 VDD, P1 VSS, P2 A5, P3 A2, P7 A1, P8 A4, P9 VSS, R1 VDD, R2 A7, R3 A9, R7 A11, R8 A6, R9 VDD, T1 VSS, T2 RESET#, T3 A13, T7 A14, T8 A8, T9 VSS

## S25FL128P0XM_1
designator U?
footprint SO16_1R27_10R3X10R3
pins: A1 VDDQ, A2 DQ13, A3 DQ15, A7 DQ12, A8 VDDQ, A9 VSS, B1 VSSQ, B2 VDD, B3 VSS, B7 UDQS#, B8 DQ14, B9 VSSQ, C1 VDDQ, C2 DQ11, C3 DQ9, C7 UDQS, C8 DQ10, C9 VDDQ, D1 VSSQ, D2 VDDQ, D3 UDM, D7 DQ8, D8 VSSQ, D9 VDD, E1 VSS, E2 VSSQ, E3 DQ0, E7 LDM, E8 VSSQ, E9 VDDQ, F1 VDDQ, F2 DQ2, F3 LDQS, F7 DQ1, F8 DQ3, F9 VSSQ, G1 VSSQ, G2 DQ6, G3 LDQS#, G7 VDD, G8 VSS, G9 VSSQ, H1 VREFDQ, H2 VDDQ, H3 DQ4, H7 DQ7, H8 DQ5, H9 VDDQ, J1 NC, J2 VSS, J3 RAS#, J7 CK, J8 VSS, J9 NC, K1 ODT, K2 VDD, K3 CAS#, K7 CK#, K8 VDD, K9 CKE, L1 NC, L2 CS#, L3 WE#, L7 A10/AP, L8 ZQ, L9 NC, M1 VSS, M2 BA0, M3 BA2, M7 A15, M8 VREFCA, M9 VSS, N1 VDD, N2 A3, N3 A0, N7 A12/BC#, N8 BA1, N9 VDD, P1 VSS, P2 A5, P3 A2, P7 A1, P8 A4, P9 VSS, R1 VDD, R2 A7, R3 A9, R7 A11, R8 A6, R9 VDD, T1 VSS, T2 RESET#, T3 A13, T7 A14, T8 A8, T9 VSS

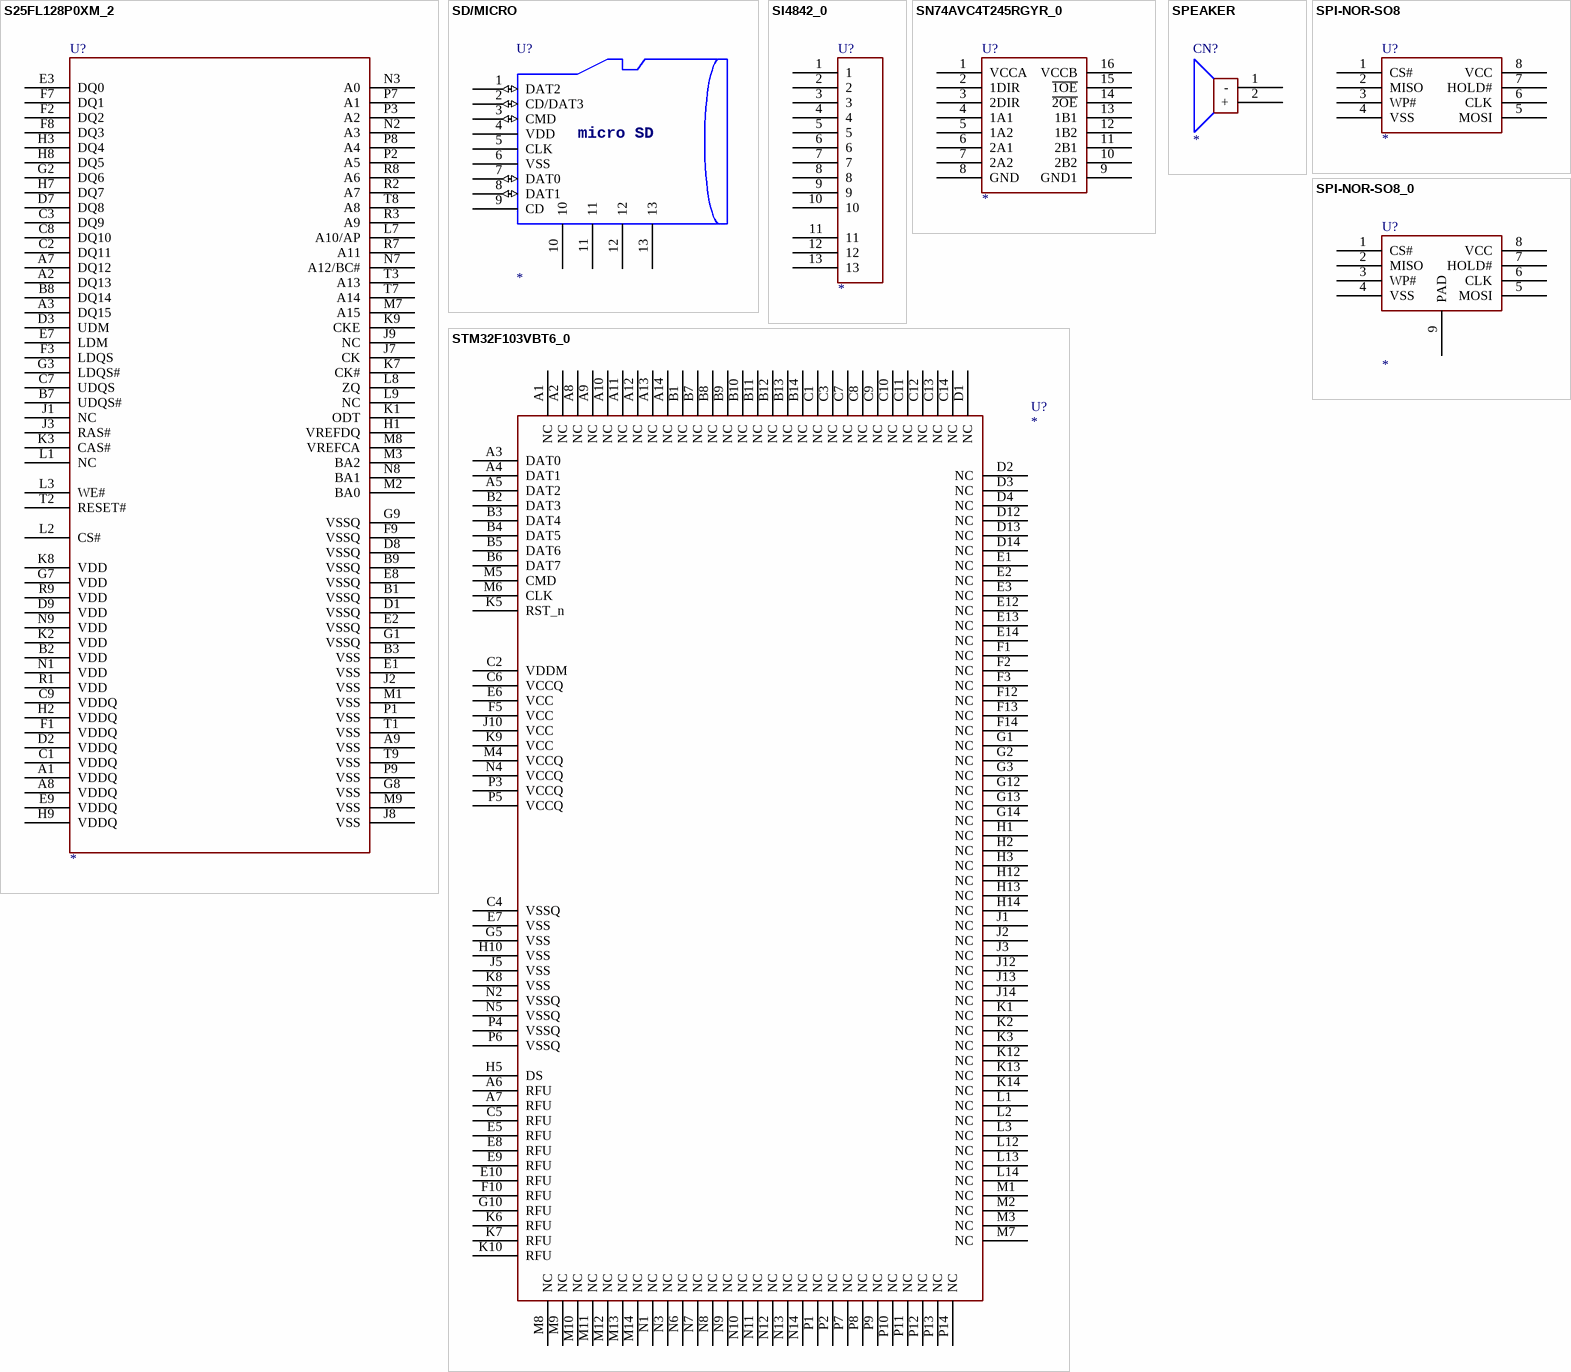
[diagram p27: symbols S25FL128P0XM_2 to STM32F103VBT6_0]

## S25FL128P0XM_2
designator U?
footprint SO16_1R27_10R3X10R3
pins: A1 VDDQ, A2 DQ13, A3 DQ15, A7 DQ12, A8 VDDQ, A9 VSS, B1 VSSQ, B2 VDD, B3 VSS, B7 UDQS#, B8 DQ14, B9 VSSQ, C1 VDDQ, C2 DQ11, C3 DQ9, C7 UDQS, C8 DQ10, C9 VDDQ, D1 VSSQ, D2 VDDQ, D3 UDM, D7 DQ8, D8 VSSQ, D9 VDD, E1 VSS, E2 VSSQ, E3 DQ0, E7 LDM, E8 VSSQ, E9 VDDQ, F1 VDDQ, F2 DQ2, F3 LDQS, F7 DQ1, F8 DQ3, F9 VSSQ, G1 VSSQ, G2 DQ6, G3 LDQS#, G7 VDD, G8 VSS, G9 VSSQ, H1 VREFDQ, H2 VDDQ, H3 DQ4, H7 DQ7, H8 DQ5, H9 VDDQ, J1 NC, J2 VSS, J3 RAS#, J7 CK, J8 VSS, J9 NC, K1 ODT, K2 VDD, K3 CAS#, K7 CK#, K8 VDD, K9 CKE, L1 NC, L2 CS#, L3 WE#, L7 A10/AP, L8 ZQ, L9 NC, M1 VSS, M2 BA0, M3 BA2, M7 A15, M8 VREFCA, M9 VSS, N1 VDD, N2 A3, N3 A0, N7 A12/BC#, N8 BA1, N9 VDD, P1 VSS, P2 A5, P3 A2, P7 A1, P8 A4, P9 VSS, R1 VDD, R2 A7, R3 A9, R7 A11, R8 A6, R9 VDD, T1 VSS, T2 RESET#, T3 A13, T7 A14, T8 A8, T9 VSS

## SD/MICRO
designator U?
footprint MicroSD
pins: 1 DAT2 (io), 2 CD/DAT3 (io), 3 CMD (io), 4 VDD (power), 5 CLK, 6 VSS (power), 7 DAT0 (io), 8 DAT1 (io), 9 CD, 10, 11, 12, 13
text: micro SD

## SI4842_0
designator U?
pins: 1, 2, 3, 4, 5, 6, 7, 8, 9, 10, 11, 12, 13

## SN74AVC4T245RGYR_0
designator U?
pins: 1 VCCA, 2 1DIR, 3 2DIR, 4 1A1, 5 1A2, 6 2A1, 7 2A2, 8 GND (power), 9 GND1 (power), 10 2B2, 11 2B1, 12 1B2, 13 1B1, 14 ~{2OE}, 15 ~{1OE}, 16 VCCB

## SPEAKER
designator CN?
footprint Phone Connector
pins: 1 -, 2 +

## SPI-NOR-SO8
designator U?
footprint SOIC-8
pins: 1 CS#, 2 MISO, 3 WP#, 4 VSS, 5 MOSI, 6 CLK, 7 HOLD#, 8 VCC

## SPI-NOR-SO8_0
designator U?
footprint SOIC-8
pins: 1 CS#, 2 MISO, 3 WP#, 4 VSS, 5 MOSI, 6 CLK, 7 HOLD#, 8 VCC, 9 PAD

## STM32F103VBT6_0
designator U?
pins: A1 NC, A2 NC, A3 DAT0, A4 DAT1, A5 DAT2, A6 RFU, A7 RFU, A8 NC, A9 NC, A10 NC, A11 NC, A12 NC, A13 NC, A14 NC, B1 NC, B2 DAT3, B3 DAT4, B4 DAT5, B5 DAT6, B6 DAT7, B7 NC, B8 NC, B9 NC, B10 NC, B11 NC, B12 NC, B13 NC, B14 NC, C1 NC, C2 VDDM, C3 NC, C4 VSSQ, C5 RFU, C6 VCCQ, C7 NC, C8 NC, C9 NC, C10 NC, C11 NC, C12 NC, C13 NC, C14 NC, D1 NC, D2 NC, D3 NC, D4 NC, D12 NC, D13 NC, D14 NC, E1 NC, E2 NC, E3 NC, E5 RFU, E6 VCC, E7 VSS, E8 RFU, E9 RFU, E10 RFU, E12 NC, E13 NC, E14 NC, F1 NC, F2 NC, F3 NC, F5 VCC, F10 RFU, F12 NC, F13 NC, F14 NC, G1 NC, G2 NC, G3 NC, G5 VSS, G10 RFU, G12 NC, G13 NC, G14 NC, H1 NC, H2 NC, H3 NC, H5 DS, H10 VSS, H12 NC, H13 NC, H14 NC, J1 NC, J2 NC, J3 NC, J5 VSS, J10 VCC, J12 NC, J13 NC, J14 NC, K1 NC, K2 NC, K3 NC, K5 RST_n, K6 RFU, K7 RFU, K8 VSS, K9 VCC, K10 RFU, K12 NC, K13 NC, K14 NC, L1 NC, L2 NC, L3 NC, L12 NC, L13 NC, L14 NC, M1 NC, M2 NC, M3 NC, M4 VCCQ, M5 CMD, M6 CLK, M7 NC, M8 NC, M9 NC, M10 NC, M11 NC, M12 NC, M13 NC, M14 NC, N1 NC, N2 VSSQ, N3 NC, N4 VCCQ, N5 VSSQ, N6 NC, N7 NC, N8 NC, N9 NC, N10 NC, N11 NC, N12 NC, N13 NC, N14 NC, P1 NC, P2 NC, P3 VCCQ, P4 VSSQ, P5 VCCQ, P6 VSSQ, P7 NC, P8 NC, P9 NC, P10 NC, P11 NC, P12 NC, P13 NC, P14 NC

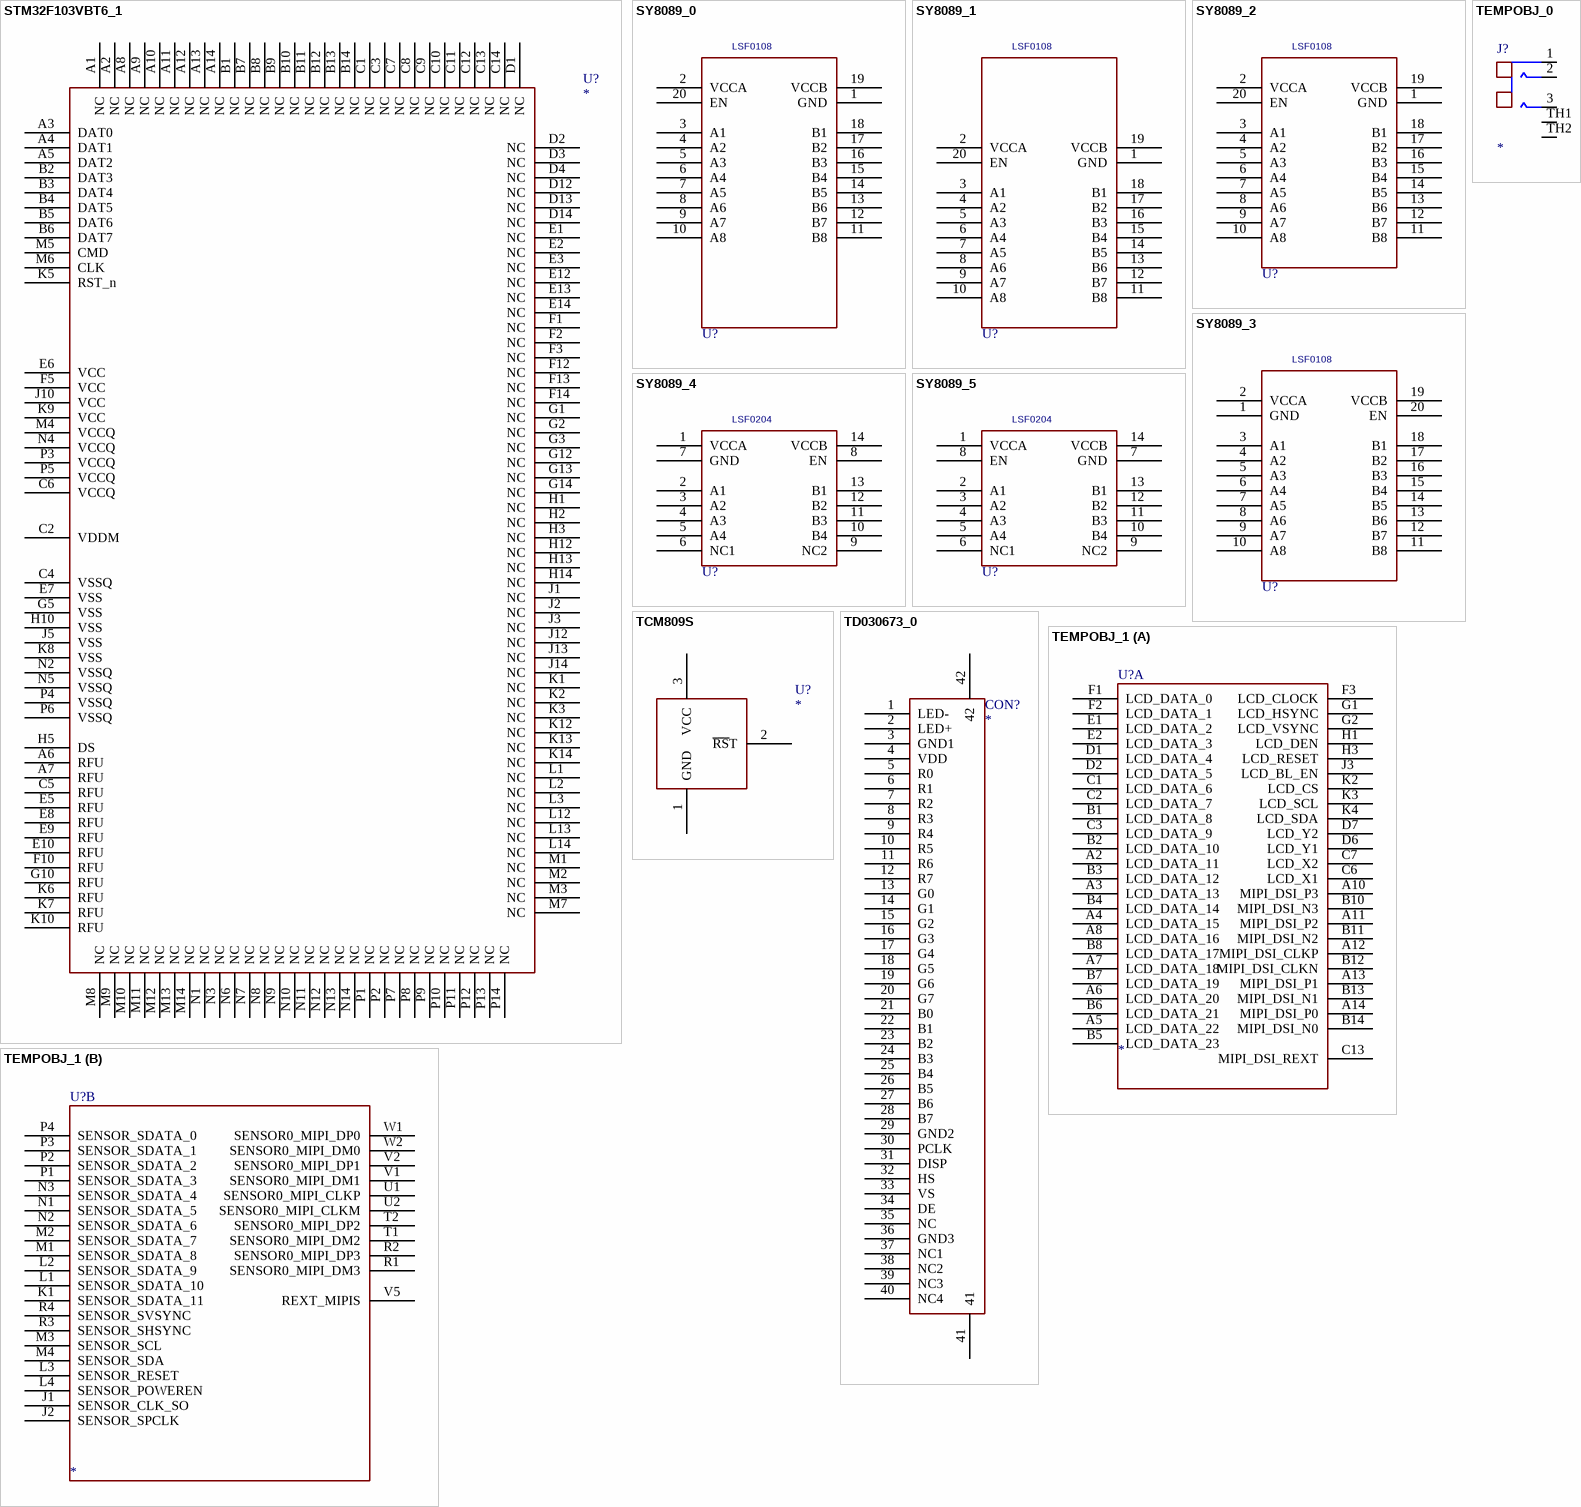
[diagram p28: symbols STM32F103VBT6_1 to TEMPOBJ_1]

## STM32F103VBT6_1
designator U?
pins: A1 NC, A2 NC, A3 DAT0, A4 DAT1, A5 DAT2, A6 RFU, A7 RFU, A8 NC, A9 NC, A10 NC, A11 NC, A12 NC, A13 NC, A14 NC, B1 NC, B2 DAT3, B3 DAT4, B4 DAT5, B5 DAT6, B6 DAT7, B7 NC, B8 NC, B9 NC, B10 NC, B11 NC, B12 NC, B13 NC, B14 NC, C1 NC, C2 VDDM, C3 NC, C4 VSSQ, C5 RFU, C6 VCCQ, C7 NC, C8 NC, C9 NC, C10 NC, C11 NC, C12 NC, C13 NC, C14 NC, D1 NC, D2 NC, D3 NC, D4 NC, D12 NC, D13 NC, D14 NC, E1 NC, E2 NC, E3 NC, E5 RFU, E6 VCC, E7 VSS, E8 RFU, E9 RFU, E10 RFU, E12 NC, E13 NC, E14 NC, F1 NC, F2 NC, F3 NC, F5 VCC, F10 RFU, F12 NC, F13 NC, F14 NC, G1 NC, G2 NC, G3 NC, G5 VSS, G10 RFU, G12 NC, G13 NC, G14 NC, H1 NC, H2 NC, H3 NC, H5 DS, H10 VSS, H12 NC, H13 NC, H14 NC, J1 NC, J2 NC, J3 NC, J5 VSS, J10 VCC, J12 NC, J13 NC, J14 NC, K1 NC, K2 NC, K3 NC, K5 RST_n, K6 RFU, K7 RFU, K8 VSS, K9 VCC, K10 RFU, K12 NC, K13 NC, K14 NC, L1 NC, L2 NC, L3 NC, L12 NC, L13 NC, L14 NC, M1 NC, M2 NC, M3 NC, M4 VCCQ, M5 CMD, M6 CLK, M7 NC, M8 NC, M9 NC, M10 NC, M11 NC, M12 NC, M13 NC, M14 NC, N1 NC, N2 VSSQ, N3 NC, N4 VCCQ, N5 VSSQ, N6 NC, N7 NC, N8 NC, N9 NC, N10 NC, N11 NC, N12 NC, N13 NC, N14 NC, P1 NC, P2 NC, P3 VCCQ, P4 VSSQ, P5 VCCQ, P6 VSSQ, P7 NC, P8 NC, P9 NC, P10 NC, P11 NC, P12 NC, P13 NC, P14 NC

## SY8089_0
designator U?, comment LSF0108
pins: 1 GND, 2 VCCA, 3 A1, 4 A2, 5 A3, 6 A4, 7 A5, 8 A6, 9 A7, 10 A8, 11 B8, 12 B7, 13 B6, 14 B5, 15 B4, 16 B3, 17 B2, 18 B1, 19 VCCB, 20 EN

## SY8089_1
designator U?, comment LSF0108
pins: 1 GND, 2 VCCA, 3 A1, 4 A2, 5 A3, 6 A4, 7 A5, 8 A6, 9 A7, 10 A8, 11 B8, 12 B7, 13 B6, 14 B5, 15 B4, 16 B3, 17 B2, 18 B1, 19 VCCB, 20 EN

## SY8089_2
designator U?, comment LSF0108
pins: 1 GND, 2 VCCA, 3 A1, 4 A2, 5 A3, 6 A4, 7 A5, 8 A6, 9 A7, 10 A8, 11 B8, 12 B7, 13 B6, 14 B5, 15 B4, 16 B3, 17 B2, 18 B1, 19 VCCB, 20 EN

## SY8089_3
designator U?, comment LSF0108
pins: 1 GND, 2 VCCA, 3 A1, 4 A2, 5 A3, 6 A4, 7 A5, 8 A6, 9 A7, 10 A8, 11 B8, 12 B7, 13 B6, 14 B5, 15 B4, 16 B3, 17 B2, 18 B1, 19 VCCB, 20 EN

## SY8089_4
designator U?, comment LSF0204
pins: 1 VCCA, 2 A1, 3 A2, 4 A3, 5 A4, 6 NC1, 7 GND, 8 EN, 9 NC2, 10 B4, 11 B3, 12 B2, 13 B1, 14 VCCB

## SY8089_5
designator U?, comment LSF0204
pins: 1 VCCA, 2 A1, 3 A2, 4 A3, 5 A4, 6 NC1, 7 GND, 8 EN, 9 NC2, 10 B4, 11 B3, 12 B2, 13 B1, 14 VCCB

## TCM809S
designator U?
footprint SOT-23
pins: 1 GND (power), 2 ~{RS}T, 3 VCC (power)

## TD030673_0
designator CON?
footprint CON40
pins: 1 LED-, 2 LED+, 3 GND1, 4 VDD, 5 R0, 6 R1, 7 R2, 8 R3, 9 R4, 10 R5, 11 R6, 12 R7, 13 G0, 14 G1, 15 G2, 16 G3, 17 G4, 18 G5, 19 G6, 20 G7, 21 B0, 22 B1, 23 B2, 24 B3, 25 B4, 26 B5, 27 B6, 28 B7, 29 GND2, 30 PCLK, 31 DISP, 32 HS, 33 VS, 34 DE, 35 NC, 36 GND3, 37 NC1, 38 NC2, 39 NC3, 40 NC4, 41, 42

## TEMPOBJ_0
designator J?
footprint conn_rca_2x1_3p_ra
pins: 1 SHLD1, 2, 3, TH1 NC1, TH2 NC2

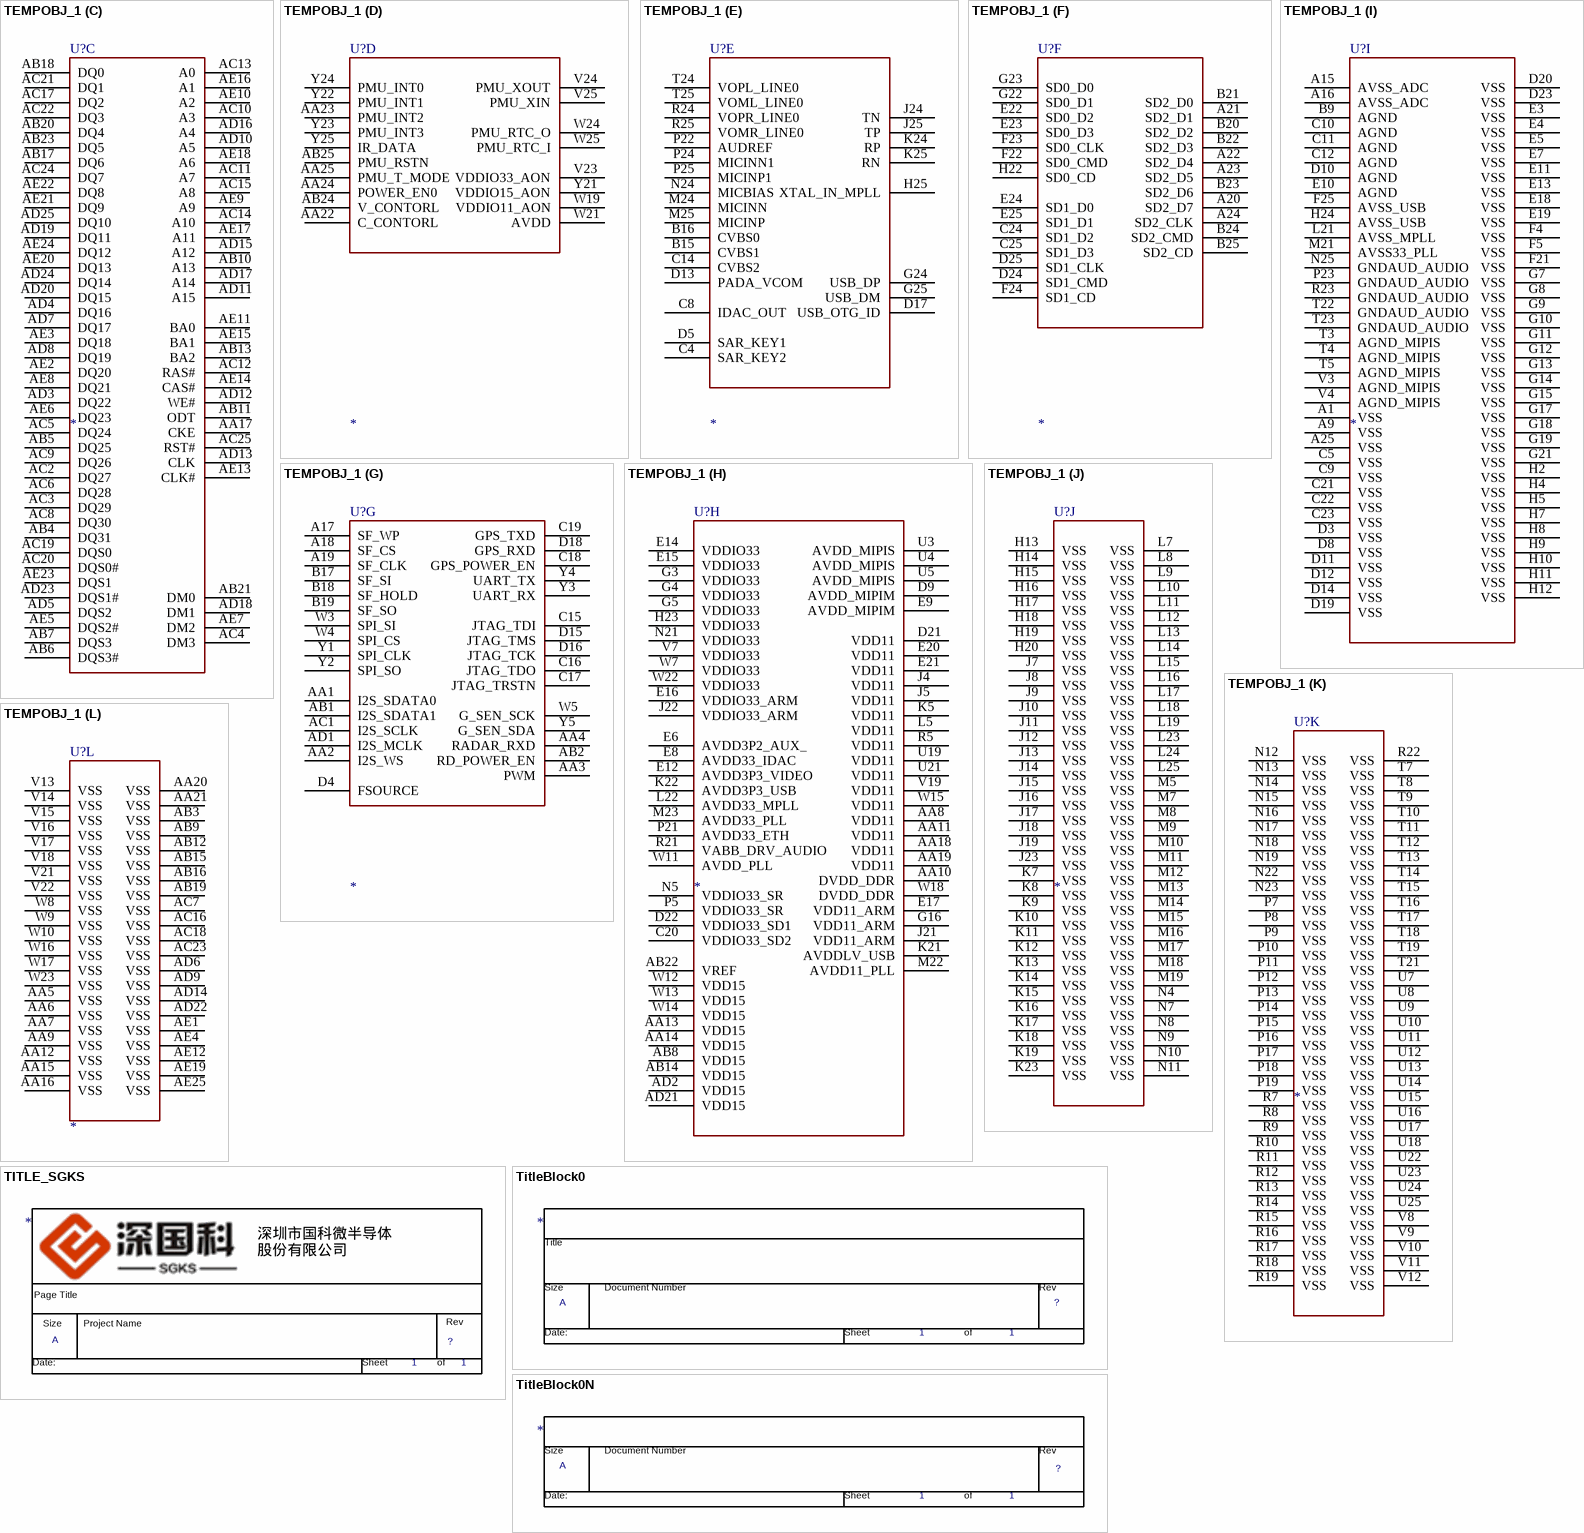
[diagram p29: symbols TEMPOBJ_1 to TitleBlock0N]

## TEMPOBJ_1
designator U?
footprint FBGA-569-0.65-17X17
part A pins: A2 LCD_DATA_11, A3 LCD_DATA_13, A4 LCD_DATA_15, A5 LCD_DATA_22, A6 LCD_DATA_20, A7 LCD_DATA_18, A8 LCD_DATA_16, A10 MIPI_DSI_P3, A11 MIPI_DSI_P2, A12 MIPI_DSI_CLKP, A13 MIPI_DSI_P1, A14 MIPI_DSI_P0, B1 LCD_DATA_8, B2 LCD_DATA_10, B3 LCD_DATA_12, B4 LCD_DATA_14, B5 LCD_DATA_23, B6 LCD_DATA_21, B7 LCD_DATA_19, B8 LCD_DATA_17, B10 MIPI_DSI_N3, B11 MIPI_DSI_N2, B12 MIPI_DSI_CLKN, B13 MIPI_DSI_N1, B14 MIPI_DSI_N0, C1 LCD_DATA_6, C2 LCD_DATA_7, C3 LCD_DATA_9, C6 LCD_X1, C7 LCD_X2, C13 MIPI_DSI_REXT, D1 LCD_DATA_4, D2 LCD_DATA_5, D6 LCD_Y1, D7 LCD_Y2, E1 LCD_DATA_2, E2 LCD_DATA_3, F1 LCD_DATA_0, F2 LCD_DATA_1, F3 LCD_CLOCK, G1 LCD_HSYNC, G2 LCD_VSYNC, H1 LCD_DEN, H3 LCD_RESET, J3 LCD_BL_EN, K2 LCD_CS, K3 LCD_SCL, K4 LCD_SDA
part B pins: J1 SENSOR_CLK_SO, J2 SENSOR_SPCLK, K1 SENSOR_SDATA_11, L1 SENSOR_SDATA_10, L2 SENSOR_SDATA_9, L3 SENSOR_RESET, L4 SENSOR_POWEREN, M1 SENSOR_SDATA_8, M2 SENSOR_SDATA_7, M3 SENSOR_SCL, M4 SENSOR_SDA, N1 SENSOR_SDATA_5, N2 SENSOR_SDATA_6, N3 SENSOR_SDATA_4, P1 SENSOR_SDATA_3, P2 SENSOR_SDATA_2, P3 SENSOR_SDATA_1, P4 SENSOR_SDATA_0, R1 SENSOR0_MIPI_DM3, R2 SENSOR0_MIPI_DP3, R3 SENSOR_SHSYNC, R4 SENSOR_SVSYNC, T1 SENSOR0_MIPI_DM2, T2 SENSOR0_MIPI_DP2, U1 SENSOR0_MIPI_CLKP, U2 SENSOR0_MIPI_CLKM, V1 SENSOR0_MIPI_DM1, V2 SENSOR0_MIPI_DP1, V5 REXT_MIPIS, W1 SENSOR0_MIPI_DP0, W2 SENSOR0_MIPI_DM0
part C pins: AA17 CKE, AB4 DQ31, AB5 DQ25, AB6 DQS3#, AB7 DQS3, AB10 A13, AB11 ODT, AB13 BA2, AB17 DQ6, AB18 DQ0, AB20 DQ4, AB21 DM0, AB23 DQ5, AC2 DQ27, AC3 DQ29, AC4 DM3, AC5 DQ24, AC6 DQ28, AC8 DQ30, AC9 DQ26, AC10 A3, AC11 A7, AC12 RAS#, AC13 A0, AC14 A10, AC15 A8, AC17 DQ2, AC19 DQS0, AC20 DQS0#, AC21 DQ1, AC22 DQ3, AC24 DQ7, AC25 RST#, AD3 DQ22, AD4 DQ16, AD5 DQS2, AD7 DQ17, AD8 DQ19, AD10 A5, AD11 A15, AD12 WE#, AD13 CLK, AD15 A12, AD16 A4, AD17 A14, AD18 DM1, AD19 DQ11, AD20 DQ15, AD23 DQS1#, AD24 DQ14, AD25 DQ10, AE2 DQ20, AE3 DQ18, AE5 DQS2#, AE6 DQ23, AE7 DM2, AE8 DQ21, AE9 A9, AE10 A2, AE11 BA0, AE13 CLK#, AE14 CAS#, AE15 BA1, AE16 A1, AE17 A11, AE18 A6, AE20 DQ13, AE21 DQ9, AE22 DQ8, AE23 DQS1, AE24 DQ12
part D pins: AA22 C_CONTORL, AA23 PMU_INT2, AA24 POWER_EN0, AA25 PMU_T_MODE, AB24 V_CONTORL, AB25 PMU_RSTN, V23 VDDIO33_AON, V24 PMU_XOUT, V25 PMU_XIN, W19 VDDIO11_AON, W21 AVDD, W24 PMU_RTC_O, W25 PMU_RTC_I, Y21 VDDIO15_AON, Y22 PMU_INT1, Y23 PMU_INT3, Y24 PMU_INT0, Y25 IR_DATA
part E pins: B15 CVBS1, B16 CVBS0, C4 SAR_KEY2, C8 IDAC_OUT, C14 CVBS2, D5 SAR_KEY1, D13 PADA_VCOM, D17 USB_OTG_ID, G24 USB_DP, G25 USB_DM, H25 XTAL_IN_MPLL, J24 TN, J25 TP, K24 RP, K25 RN, M24 MICINN, M25 MICINP, N24 MICBIAS, P22 AUDREF, P24 MICINN1, P25 MICINP1, R24 VOPR_LINE0, R25 VOMR_LINE0, T24 VOPL_LINE0, T25 VOML_LINE0
part F pins: A20 SD2_D7, A21 SD2_D1, A22 SD2_D4, A23 SD2_D5, A24 SD2_CLK, B20 SD2_D2, B21 SD2_D0, B22 SD2_D3, B23 SD2_D6, B24 SD2_CMD, B25 SD2_CD, C24 SD1_D2, C25 SD1_D3, D24 SD1_CMD, D25 SD1_CLK, E22 SD0_D2, E23 SD0_D3, E24 SD1_D0, E25 SD1_D1, F22 SD0_CMD, F23 SD0_CLK, F24 SD1_CD, G22 SD0_D1, G23 SD0_D0, H22 SD0_CD
part G pins: A17 SF_WP, A18 SF_CS, A19 SF_CLK, AA1 I2S_SDATA0, AA2 I2S_WS, AA3 PWM, AA4 RADAR_RXD, AB1 I2S_SDATA1, AB2 RD_POWER_EN, AC1 I2S_SCLK, AD1 I2S_MCLK, B17 SF_SI, B18 SF_HOLD, B19 SF_SO, C15 JTAG_TDI, C16 JTAG_TDO, C17 JTAG_TRSTN, C18 GPS_POWER_EN, C19 GPS_TXD, D4 FSOURCE, D15 JTAG_TMS, D16 JTAG_TCK, D18 GPS_RXD, W3 SPI_SI, W4 SPI_CS, W5 G_SEN_SCK, Y1 SPI_CLK, Y2 SPI_SO, Y3 UART_RX, Y4 UART_TX, Y5 G_SEN_SDA
part H pins: AA8 VDD11, AA10 DVDD_DDR, AA11 VDD11, AA13 VDD15, AA14 VDD15, AA18 VDD11, AA19 VDD11, AB8 VDD15, AB14 VDD15, AB22 VREF, AD2 VDD15, AD21 VDD15, C20 VDDIO33_SD2, D9 AVDD_MIPIM, D21 VDD11, D22 VDDIO33_SD1, E6 AVDD3P2_AUX_, E8 AVDD33_IDAC, E9 AVDD_MIPIM, E12 AVDD3P3_VIDEO, E14 VDDIO33, E15 VDDIO33, E16 VDDIO33_ARM, E17 VDD11_ARM, E20 VDD11, E21 VDD11, G3 VDDIO33, G4 VDDIO33, G5 VDDIO33, G16 VDD11_ARM, H23 VDDIO33, J4 VDD11, J5 VDD11, J21 VDD11_ARM, J22 VDDIO33_ARM, K5 VDD11, K21 AVDDLV_USB, K22 AVDD3P3_USB, L5 VDD11, L22 AVDD33_MPLL, M22 AVDD11_PLL, M23 AVDD33_PLL, N5 VDDIO33_SR, N21 VDDIO33, P5 VDDIO33_SR, P21 AVDD33_ETH, R5 VDD11, R21 VABB_DRV_AUDIO, U3 AVDD_MIPIS, U4 AVDD_MIPIS, U5 AVDD_MIPIS, U19 VDD11, U21 VDD11, V7 VDDIO33, V19 VDD11, W7 VDDIO33, W11 AVDD_PLL, W12 VDD15, W13 VDD15, W14 VDD15, W15 VDD11, W18 DVDD_DDR, W22 VDDIO33
part I pins: A1 VSS, A9 VSS, A15 AVSS_ADC, A16 AVSS_ADC, A25 VSS, B9 AGND, C5 VSS, C9 VSS, C10 AGND, C11 AGND, C12 AGND, C21 VSS, C22 VSS, C23 VSS, D3 VSS, D8 VSS, D10 AGND, D11 VSS, D12 VSS, D14 VSS, D19 VSS, D20 VSS, D23 VSS, E3 VSS, E4 VSS, E5 VSS, E7 VSS, E10 AGND, E11 VSS, E13 VSS, E18 VSS, E19 VSS, F4 VSS, F5 VSS, F21 VSS, F25 AVSS_USB, G7 VSS, G8 VSS, G9 VSS, G10 VSS, G11 VSS, G12 VSS, G13 VSS, G14 VSS, G15 VSS, G17 VSS, G18 VSS, G19 VSS, G21 VSS, H2 VSS, H4 VSS, H5 VSS, H7 VSS, H8 VSS, H9 VSS, H10 VSS, H11 VSS, H12 VSS, H24 AVSS_USB, L21 AVSS_MPLL, M21 AVSS33_PLL, N25 GNDAUD_AUDIO, P23 GNDAUD_AUDIO, R23 GNDAUD_AUDIO, T3 AGND_MIPIS, T4 AGND_MIPIS, T5 AGND_MIPIS, T22 GNDAUD_AUDIO, T23 GNDAUD_AUDIO, V3 AGND_MIPIS, V4 AGND_MIPIS
part J pins: H13 VSS, H14 VSS, H15 VSS, H16 VSS, H17 VSS, H18 VSS, H19 VSS, H20 VSS, J7 VSS, J8 VSS, J9 VSS, J10 VSS, J11 VSS, J12 VSS, J13 VSS, J14 VSS, J15 VSS, J16 VSS, J17 VSS, J18 VSS, J19 VSS, J23 VSS, K7 VSS, K8 VSS, K9 VSS, K10 VSS, K11 VSS, K12 VSS, K13 VSS, K14 VSS, K15 VSS, K16 VSS, K17 VSS, K18 VSS, K19 VSS, K23 VSS, L7 VSS, L8 VSS, L9 VSS, L10 VSS, L11 VSS, L12 VSS, L13 VSS, L14 VSS, L15 VSS, L16 VSS, L17 VSS, L18 VSS, L19 VSS, L23 VSS, L24 VSS, L25 VSS, M5 VSS, M7 VSS, M8 VSS, M9 VSS, M10 VSS, M11 VSS, M12 VSS, M13 VSS, M14 VSS, M15 VSS, M16 VSS, M17 VSS, M18 VSS, M19 VSS, N4 VSS, N7 VSS, N8 VSS, N9 VSS, N10 VSS, N11 VSS
part K pins: N12 VSS, N13 VSS, N14 VSS, N15 VSS, N16 VSS, N17 VSS, N18 VSS, N19 VSS, N22 VSS, N23 VSS, P7 VSS, P8 VSS, P9 VSS, P10 VSS, P11 VSS, P12 VSS, P13 VSS, P14 VSS, P15 VSS, P16 VSS, P17 VSS, P18 VSS, P19 VSS, R7 VSS, R8 VSS, R9 VSS, R10 VSS, R11 VSS, R12 VSS, R13 VSS, R14 VSS, R15 VSS, R16 VSS, R17 VSS, R18 VSS, R19 VSS, R22 VSS, T7 VSS, T8 VSS, T9 VSS, T10 VSS, T11 VSS, T12 VSS, T13 VSS, T14 VSS, T15 VSS, T16 VSS, T17 VSS, T18 VSS, T19 VSS, T21 VSS, U7 VSS, U8 VSS, U9 VSS, U10 VSS, U11 VSS, U12 VSS, U13 VSS, U14 VSS, U15 VSS, U16 VSS, U17 VSS, U18 VSS, U22 VSS, U23 VSS, U24 VSS, U25 VSS, V8 VSS, V9 VSS, V10 VSS, V11 VSS, V12 VSS
part L pins: AA5 VSS, AA6 VSS, AA7 VSS, AA9 VSS, AA12 VSS, AA15 VSS, AA16 VSS, AA20 VSS, AA21 VSS, AB3 VSS, AB9 VSS, AB12 VSS, AB15 VSS, AB16 VSS, AB19 VSS, AC7 VSS, AC16 VSS, AC18 VSS, AC23 VSS, AD6 VSS, AD9 VSS, AD14 VSS, AD22 VSS, AE1 VSS, AE4 VSS, AE12 VSS, AE19 VSS, AE25 VSS, V13 VSS, V14 VSS, V15 VSS, V16 VSS, V17 VSS, V18 VSS, V21 VSS, V22 VSS, W8 VSS, W9 VSS, W10 VSS, W16 VSS, W17 VSS, W23 VSS

## TITLE_SGKS
designator *  Page Size: A  Page Number: 1  (graphical)
Page Create Date: March  8, 1995; RevCode: ?; Page Count: 1
text: 深圳市国科微半导体 / 股份有限公司; Page Title; Size; Project Name; Rev; Date:; Sheet; of

## TitleBlock0
designator *  Page Count: 1  Page Size: A  (graphical)
Page Number: 1; RevCode: ?; Page Create Date: March  8, 1995
text: Title; Size; Document Number; Rev; Date:; Sheet; of

## TitleBlock0N
designator *  Page Count: 1  Page Size: A  (graphical)
Page Number: 1; Page Create Date: April 25, 1995; RevCode: ?
text: Size; Document Number; Rev; Date:; Sheet; of

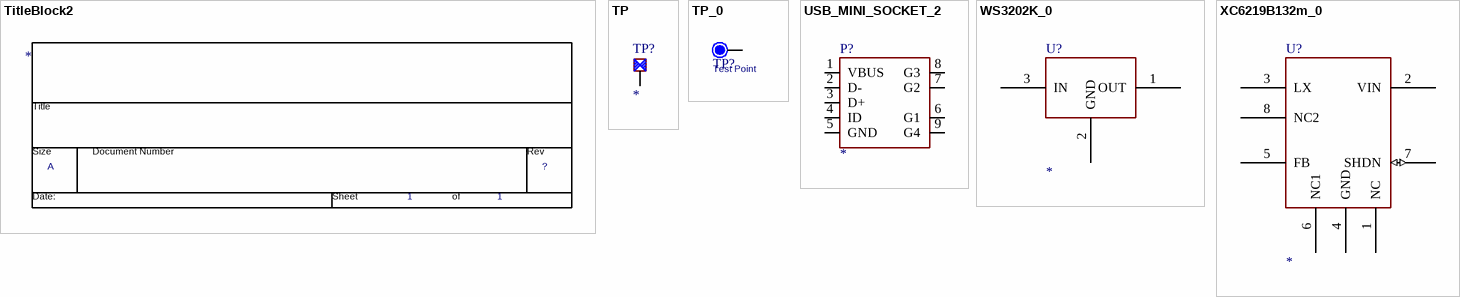
[diagram p30: symbols TitleBlock2 to XC6219B132m_0]

## TitleBlock2
designator *  Page Count: 1  Page Size: A  (graphical)
Page Number: 1; RevCode: ?; Page Create Date: March  8, 1995
text: Title; Size; Document Number; Rev; Date:; Sheet; of

## TP
designator TP?
pins: 1

## TP_0
designator TP?, comment Test Point
footprint TP/SMD/D1.0
pins: 1

## USB_MINI_SOCKET_2
designator P?
footprint USB_MINI_AB
pins: 1 VBUS, 2 D-, 3 D+, 4 ID, 5 GND, 6 G1, 7 G2, 8 G3, 9 G4

## WS3202K_0
designator U?
footprint SOT-89-3L
pins: 1 OUT, 2 GND, 3 IN

## XC6219B132m_0
designator U?
footprint SOT23_5
pins: 1 NC, 2 VIN, 3 LX, 4 GND, 5 FB, 6 NC1, 7 SHDN (io), 8 NC2